# Altium schematic symbol library SamacSys.SchLib: 1281 symbols (part 11 of 13)
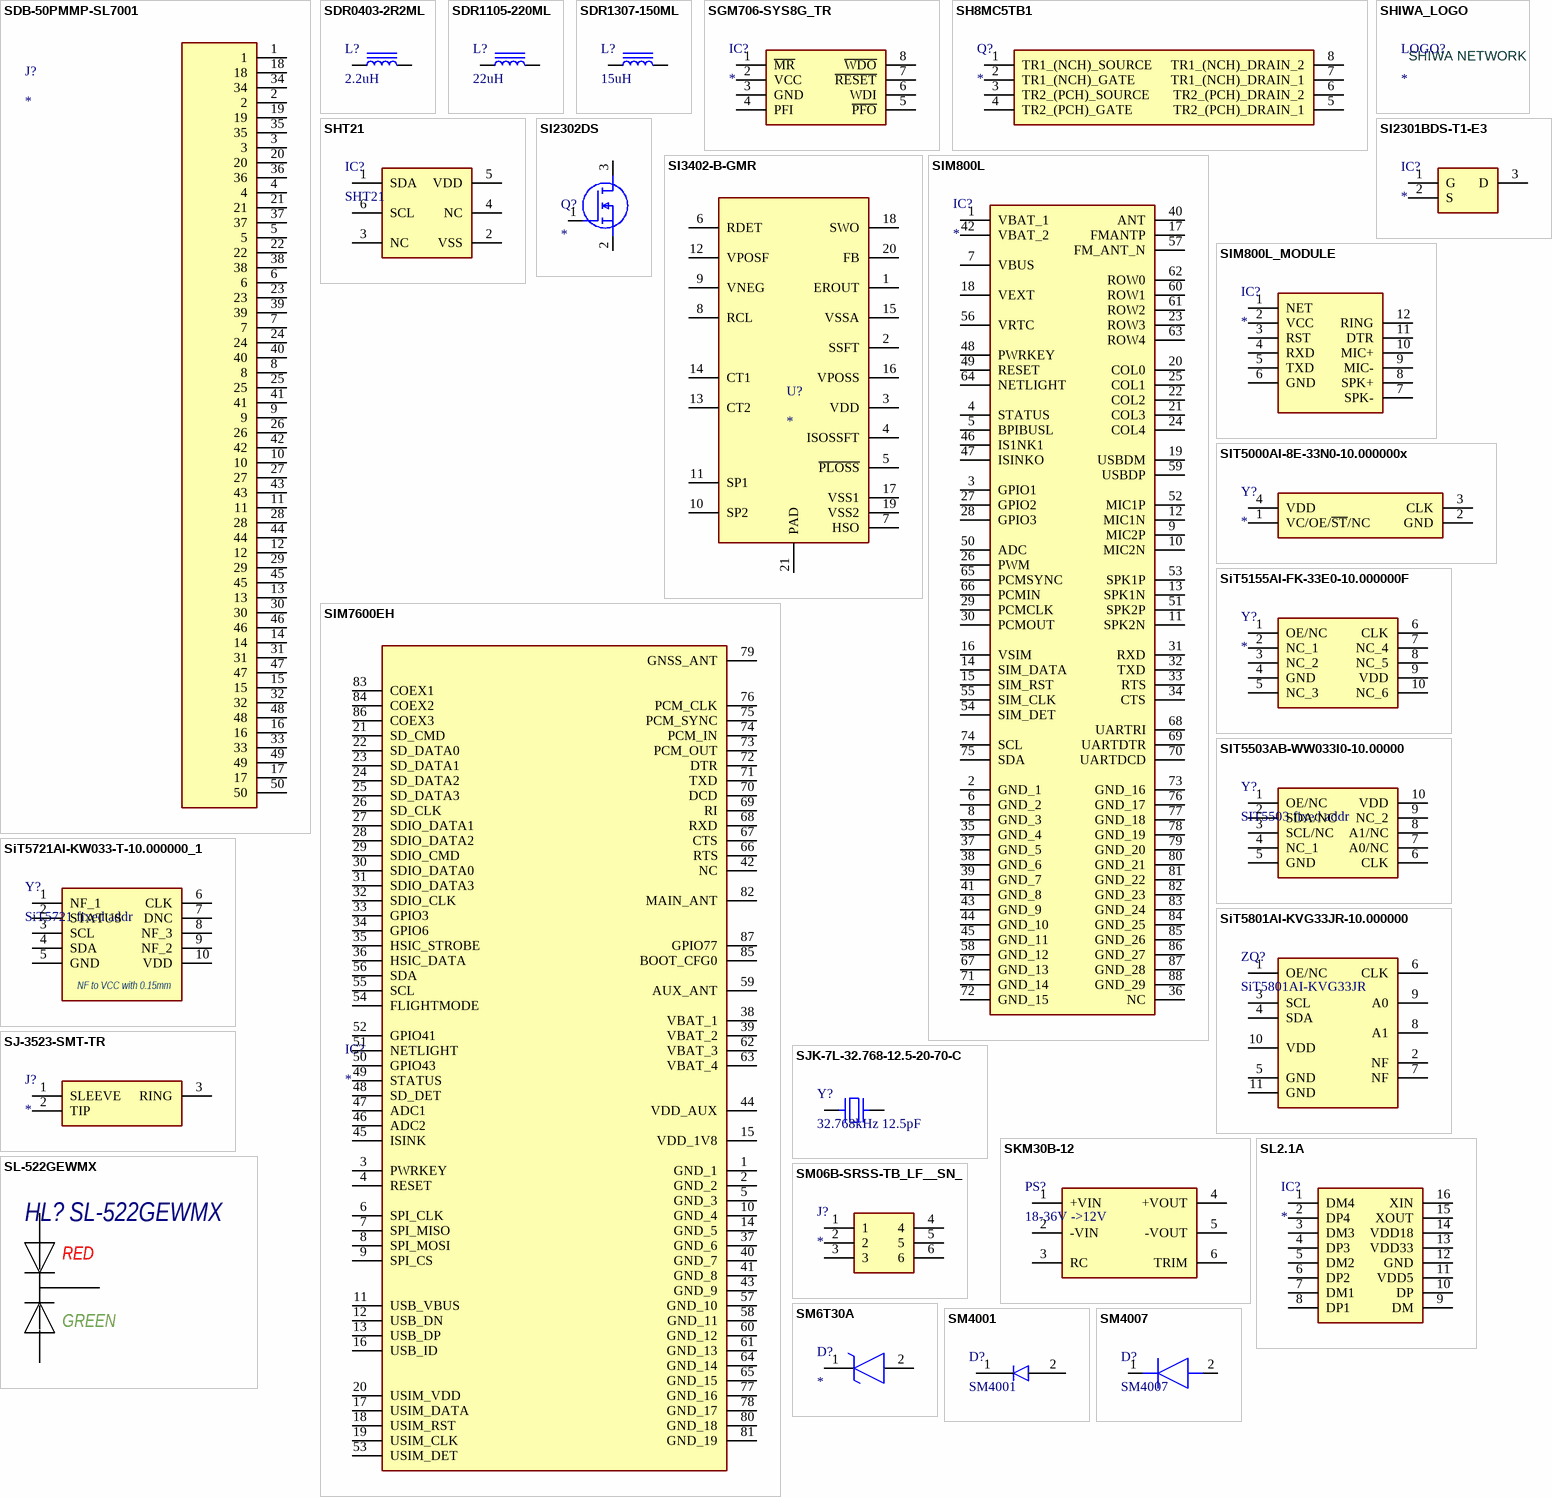
[diagram p57: symbols SDB-50PMMP-SL7001 to SM4007]

## SIM800L
designator IC?
Integrated Circuit; Manufacturer_Name: SIMCOM; Manufacturer_Part_Number: SIM800L; Datasheet Link: http://img.filipeflop.com/files/download/Datasheet_SIM800L.pdf; Height: 2.55mm
footprint SIM800L
pins: 1 VBAT_1, 2 GND_1, 3 GPIO1, 4 STATUS, 5 BPIBUSL, 6 GND_2, 7 VBUS, 8 GND_3, 9 MIC2P, 10 MIC2N, 11 SPK2N, 12 MIC1N, 13 SPK1N, 14 SIM_DATA, 15 SIM_RST, 16 VSIM, 17 FMANTP, 18 VEXT, 19 USBDM, 20 COL0, 21 COL3, 22 COL2, 23 ROW3, 24 COL4, 25 COL1, 26 PWM, 27 GPIO2, 28 GPIO3, 29 PCMCLK, 30 PCMOUT, 31 RXD, 32 TXD, 33 RTS, 34 CTS, 35 GND_4, 36 NC, 37 GND_5, 38 GND_6, 39 GND_7, 40 ANT, 41 GND_8, 42 VBAT_2, 43 GND_9, 44 GND_10, 45 GND_11, 46 IS1NK1, 47 ISINKO, 48 PWRKEY, 49 RESET, 50 ADC, 51 SPK2P, 52 MIC1P, 53 SPK1P, 54 SIM_DET, 55 SIM_CLK, 56 VRTC, 57 FM_ANT_N, 58 GND_12, 59 USBDP, 60 ROW1, 61 ROW2, 62 ROW0, 63 ROW4, 64 NETLIGHT, 65 PCMSYNC, 66 PCMIN, 67 GND_13, 68 UARTRI, 69 UARTDTR, 70 UARTDCD, 71 GND_14, 72 GND_15, 73 GND_16, 74 SCL, 75 SDA, 76 GND_17, 77 GND_18, 78 GND_19, 79 GND_20, 80 GND_21, 81 GND_22, 82 GND_23, 83 GND_24, 84 GND_25, 85 GND_26, 86 GND_27, 87 GND_28, 88 GND_29

## SIM800L_MODULE
designator IC?
GSM module; Manufacturer_Part_Number: SIM800L_MODULE
footprint SIM800L_MODULE
footprint SIM800L_MODULE-wo1pin
pins: 1 NET, 2 VCC, 3 RST, 4 RXD, 5 TXD, 6 GND, 7 SPK-, 8 SPK+, 9 MIC-, 10 MIC+, 11 DTR, 12 RING

## SIM7600EH
designator IC?
Integrated Circuit; Manufacturer_Name: SIMCOM; Manufacturer_Part_Number: SIM7600EH; Datasheet Link: https://www.waveshare.com/w/upload/f/fd/SIM7600_Series_Hardware_Design_V1.02.pdf; Height: 3.1mm
footprint SIM7600EH
pins: 1 GND_1, 2 GND_2, 3 PWRKEY, 4 RESET, 5 GND_3, 6 SPI_CLK, 7 SPI_MISO, 8 SPI_MOSI, 9 SPI_CS, 10 GND_4, 11 USB_VBUS, 12 USB_DN, 13 USB_DP, 14 GND_5, 15 VDD_1V8, 16 USB_ID, 17 USIM_DATA, 18 USIM_RST, 19 USIM_CLK, 20 USIM_VDD, 21 SD_CMD, 22 SD_DATA0, 23 SD_DATA1, 24 SD_DATA2, 25 SD_DATA3, 26 SD_CLK, 27 SDIO_DATA1, 28 SDIO_DATA2, 29 SDIO_CMD, 30 SDIO_DATA0, 31 SDIO_DATA3, 32 SDIO_CLK, 33 GPIO3, 34 GPIO6, 35 HSIC_STROBE, 36 HSIC_DATA, 37 GND_6, 38 VBAT_1, 39 VBAT_2, 40 GND_7, 41 GND_8, 42 NC, 43 GND_9, 44 VDD_AUX, 45 ISINK, 46 ADC2, 47 ADC1, 48 SD_DET, 49 STATUS, 50 GPIO43, 51 NETLIGHT, 52 GPIO41, 53 USIM_DET, 54 FLIGHTMODE, 55 SCL, 56 SDA, 57 GND_10, 58 GND_11, 59 AUX_ANT, 60 GND_12, 61 GND_13, 62 VBAT_3, 63 VBAT_4, 64 GND_14, 65 GND_15, 66 RTS, 67 CTS, 68 RXD, 69 RI, 70 DCD, 71 TXD, 72 DTR, 73 PCM_OUT, 74 PCM_IN, 75 PCM_SYNC, 76 PCM_CLK, 77 GND_16, 78 GND_17, 79 GNSS_ANT, 80 GND_18, 81 GND_19, 82 MAIN_ANT, 83 COEX1, 84 COEX2, 85 BOOT_CFG0, 86 COEX3, 87 GPIO77

## SIT5000AI-8E-33N0-10.000000x
designator Y?
Crystal or Oscillator; Manufacturer_Name: SiTime; Manufacturer_Part_Number: SIT5000AI-8E-33N0-10.000000x; Datasheet Link: https://www.sitime.com/datasheet/SiT5000; Height: 1mm; Mouser Part Number: 788-SIT5000AI8E3N10; Mouser Price/Stock: https://www.mouser.co.uk/ProductDetail/SiTime/SIT5000AI-8E-33N0-10000000x/?qs=GedFDFLaBXFLKNanSjMXgQ%3D%3D
footprint SIT5000AI8E33N010000000x
pins: 1 VC/OE/~{ST}/NC, 2 GND, 3 CLK, 4 VDD

## SiT5155AI-FK-33E0-10.000000F
designator Y?
Crystal or Oscillator; Manufacturer_Name: SiTime; Manufacturer_Part_Number: SiT5155AI-FK-33E0-10.000000F; Datasheet Link: https://www.mouser.cn/datasheet/2/371/SiT5155_datasheet-1371837.pdf; Height: 1.06mm; Mouser Part Number: 788-5155AIFK33E0100F; Mouser Price/Stock: https://www.mouser.co.uk/ProductDetail/SiTime/SiT5155AI-FK-33E0-10.000000F?qs=BJlw7L4Cy7%252B3BOCTl0ucGA%3D%3D
footprint SiT5155AIFK33E010000000F
pins: 1 OE/NC, 2 NC_1, 3 NC_2, 4 GND, 5 NC_3, 6 CLK, 7 NC_4, 8 NC_5, 9 VDD, 10 NC_6

## SIT5503AB-WW033I0-10.00000
designator Y?, comment SIT5503 fixed addr
Oscillator, WW*33 - any digit or letter (not "-"), 33J* - B, M, Q, R, T (50ppm and better); Manufacturer_Name: SiTime; Manufacturer_Part_Number: SIT5503AB-WW033I0-10.00000; Height: 2.2mm
footprint Ceramic_QFN_7050_10pins
pins: 1 OE/NC, 2 SDA/NC, 3 SCL/NC, 4 NC_1, 5 GND, 6 CLK, 7 A0/NC, 8 A1/NC, 9 NC_2, 10 VDD

## SiT5721AI-KW033-T-10.000000_1
designator Y?, comment SiT5721 fixed addr
Oscillator, KW*33 - any digit or letter (not "-"); Manufacturer_Name: SiTime; Manufacturer_Part_Number: SiT5721AI-KW033-T-10; Datasheet Link: https://www.sitime.com/support/resource-library/datasheets/sit5711-datasheet; Height: 6.19mm
footprint Emerald_9070_10pins_2022
pins: 1 NF_1, 2 STATUS, 3 SCL, 4 SDA, 5 GND, 6 CLK, 7 DNC, 8 NF_3, 9 NF_2, 10 VDD
text: NF to VCC with 0.15mm

## SiT5801AI-KVG33JR-10.000000
designator ZQ?, comment SiT5801AI-KVG33JR
OSC, 10 MHz, Industrial, STAB +-3ppb, CLAMP +-10ppm, I2C ADDR Mode, 3,3V; Manufacturer_Name: SiTime; Manufacturer_Part_Number: SiT5801AI-KVG33JR-10.000000; Datasheet Link: https://www.sitime.com/support/resource-library/datasheets/sit5711-datasheet; Height: 3.6mm
footprint SIT_9*7_11pins_wEP
pins: 1 OE/NC, 2 NF, 3 SCL, 4 SDA, 5 GND, 6 CLK, 7 NF, 8 A1, 9 A0, 10 VDD, 11 GND

## SJ-3523-SMT-TR
designator J?
Connector; Manufacturer_Name: CUI Inc.; Manufacturer_Part_Number: SJ-3523-SMT-TR; Datasheet Link: https://www.mouser.de/datasheet/2/670/sj_352x_smt-1779397.pdf; Height: 5.2mm; Mouser Part Number: 490-SJ-3523-SMT-TR; Mouser Price/Stock: https://www.mouser.co.uk/ProductDetail/CUI-Devices/SJ-3523-SMT-TR?qs=WyjlAZoYn51zOHzJ3r4ZRA%3D%3D; Arrow Part Number: SJ-3523-SMT-TR; Arrow Price/Stock: https://www.arrow.com/en/products/sj-3523-smt-tr/cui-devices?region=nac
footprint SJ3523SMTTR
pins: 1 SLEEVE, 2 TIP, 3 RING

## SJK-7L-32.768-12.5-20-70-C
designator Y?, comment 32.768kHz 12.5pF
Crystal or Oscillator; Manufacturer_Name: Epson Timing; Manufacturer_Part_Number: FC-135 32.7680KA-A3; Datasheet Link: https://support.epson.biz/td/api/doc_check.php?dl=brief_FC-135&lang=en; Height: 0.9mm; Mouser Part Number: 732-FC-13532.76KAA3; Mouser Price/Stock: https://www.mouser.co.uk/ProductDetail/Epson-Timing/FC-135-32.7680KA-A0?qs=tC2qD9afNgrMeRwy3OalUw%3D%3D; Arrow Part Number: FC-135 32.7680KA-A3; Arrow Price/Stock: https://www.arrow.com/en/products/fc-13532.7680ka-a0/epson-electronics-america?region=nac
footprint SJK-7L (Footprint not found)
pins: 1, 2

## SKM30B-12
designator PS?, comment 18-36V ->12V
DC/DC, 30Вт, Uвх: 18-36В, Uвых: 12ВDC, Iвых: 2,5А / A: 9 ~ 18VDC B: 18 ~ 36VDC C: 36 ~ 75VDC; Manufacturer_Name: Mean Well; Manufacturer_Part_Number: SKM30B-12; Datasheet Link: https://static.chipdip.ru/lib/784/DOC059784426.pdf; Height: 12; Mouser Part Number: 709-DPU01N-12; Mouser Price/Stock: https://www.mouser.co.uk/ProductDetail/MEAN-WELL/DPU01N-12?qs=5aG0NVq1C4yTyMl3DWRvqA%3D%3D; Arrow Part Number: DPU01N-12; Arrow Price/Stock: https://www.arrow.com/en/products/dpu01n-12/mean-well-enterprises
footprint SKM30 (DC/DC, 30W)
pins: 1 +VIN, 2 -VIN, 3 RC, 4 +VOUT, 5 -VOUT, 6 TRIM

## SL2.1A
designator IC?
Integrated Circuit; Manufacturer_Name: CoreChips ShenZhen CO.,Ltd; Manufacturer_Part_Number: SL2.1A; Datasheet Link: https://datasheet.lcsc.com/szlcsc/1811151645_CoreChips-SL2-1A_C192893.pdf; Height: 1.85mm
footprint SOIC127P604X185-16N
pins: 1 DM4, 2 DP4, 3 DM3, 4 DP3, 5 DM2, 6 DP2, 7 DM1, 8 DP1, 9 DM, 10 DP, 11 VDD5, 12 GND, 13 VDD33, 14 VDD18, 15 XOUT, 16 XIN

## SL-522GEWMX
designator HL?
LED BI-COLOR 5mm; Type: Индикатор единичный; Published: 03.12.2013; Publisher: Артем Голубев
footprint LED_DUAL_5mm (LED 5MM, BI-COLOR)
pins: 1 А_R "Анод", 2 К "Катод", 3 А_G "Анод"
1 alternate drawing of the same symbol
text: RED; GREEN

## SM06B-SRSS-TB_LF__SN_
designator J?
Connector; Manufacturer_Name: JST (JAPAN SOLDERLESS TERMINALS); Manufacturer_Part_Number: SM06B-SRSS-TB(LF)(SN); Datasheet Link: http://www.jst-mfg.com/product/pdf/eng/eSH.pdf; Arrow Part Number: SM06B-SRSS-TB(LF)(SN); Arrow Price/Stock: https://www.arrow.com/en/products/sm06b-srss-tb-lf-sn/jst-manufacturing?region=europe
footprint SM06B-SRSS-B
pins: 1, 2, 3, 4, 5, 6

## SM6T30A
designator D?
TVS Diode (Uni-directional); Manufacturer_Name: STMicroelectronics; Manufacturer_Part_Number: SM6T30A; Datasheet Link: https://www.st.com/resource/en/datasheet/sm6t100a.pdf; Height: 2.65mm; Mouser Part Number: 511-SM6T30A; Mouser Price/Stock: https://www.mouser.co.uk/ProductDetail/STMicroelectronics/SM6T30A?qs=Mu9A%252BxKg3hRUY0KZ5jUdPA%3D%3D; Arrow Part Number: SM6T30A; Arrow Price/Stock: https://www.arrow.com/en/products/sm6t30a/stmicroelectronics
footprint DIOM5436X265N
pins: 1 K, 2 A

## SM4001
designator D?
Diode; Manufacturer_Name: Diotec; Datasheet Link: https://static.chipdip.ru/lib/506/DOC008506449.pdf; Manufacturer_Part_Number: SM4001
footprint Melf/DO-213AB
pins: 1 K, 2 A

## SM4007
designator D?
Diode, 1000V, 1A, / Melf/DO-213AB; Manufacturer_Name: Rectron; Manufacturer_Part_Number: SM4007-W; Datasheet Link: https://componentsearchengine.com/Datasheets/1/SM4007-W.pdf; Mouser Part Number: 583-SM4007; Mouser Price/Stock: https://www.mouser.co.uk/ProductDetail/Rectron/SM4007-W?qs=Eu63EZxBwKLdRxdF7bUaug%3D%3D; Arrow Part Number: SM4007-W; Arrow Price/Stock: null?region=nac; Package: Melf/DO-213AB
footprint Melf/DO-213AB
pins: 1 K, 2 A

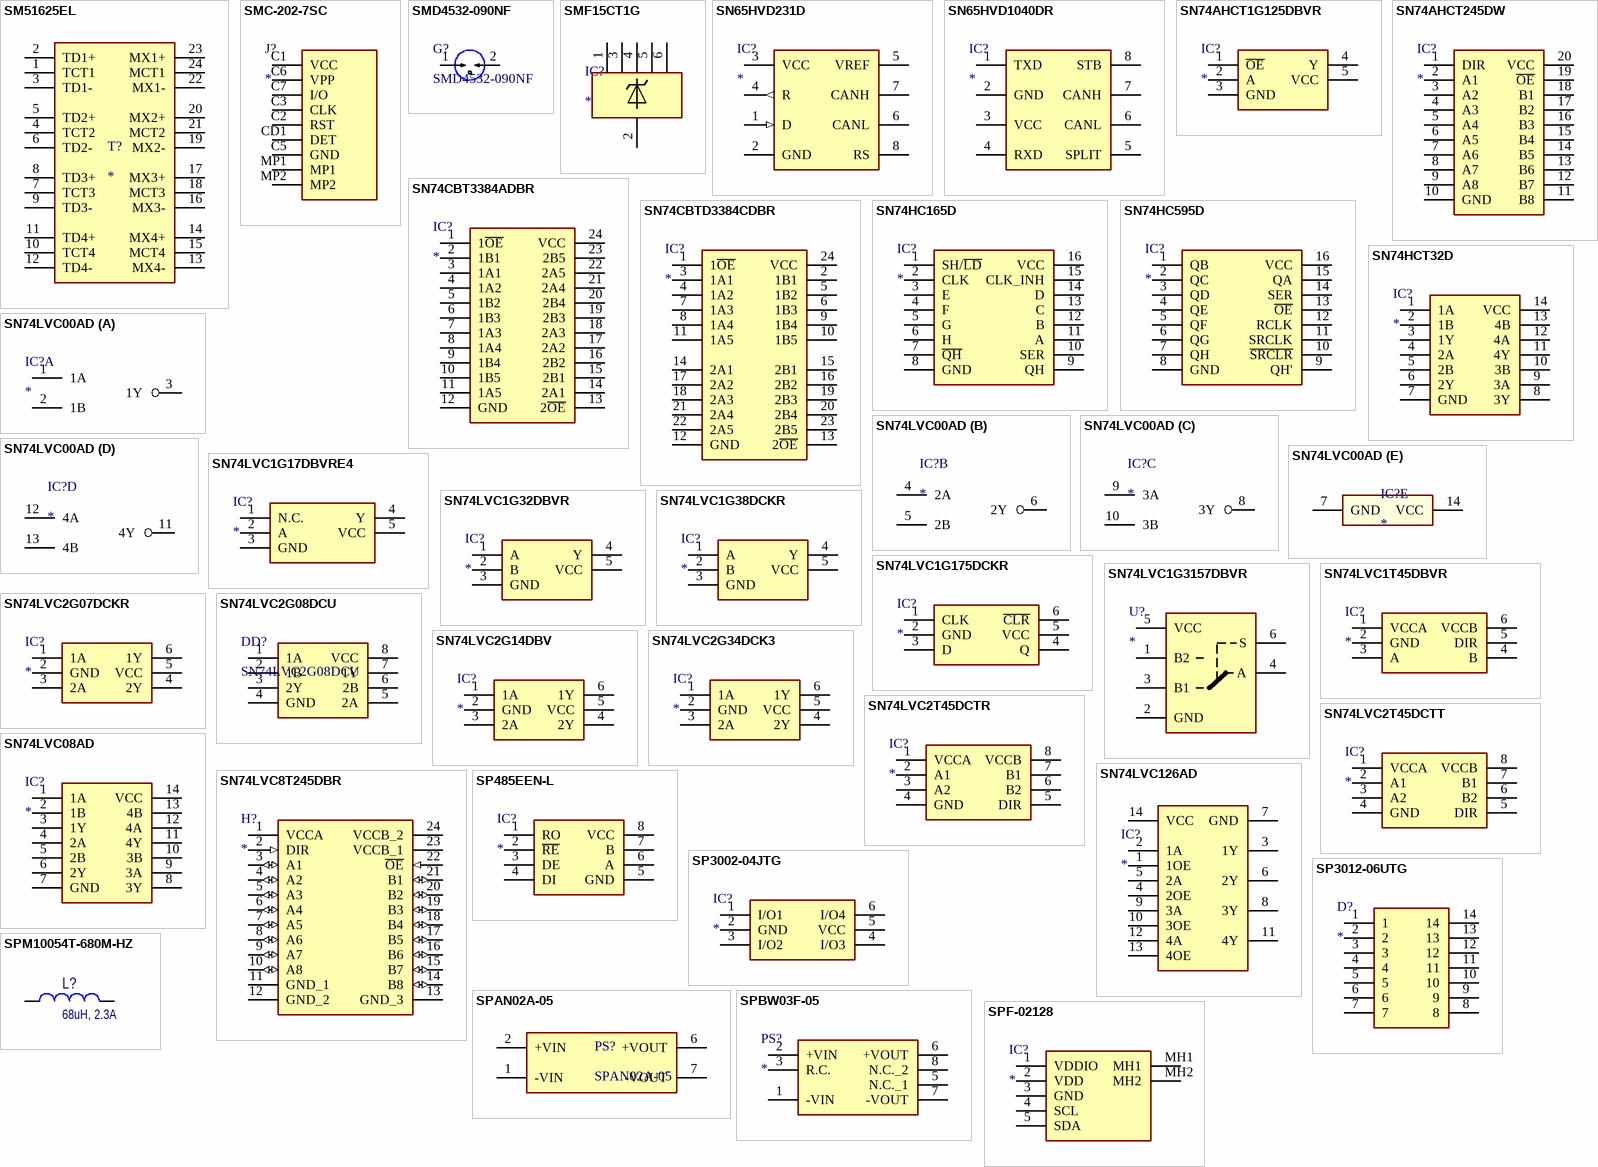
[diagram p37: symbols SM51625EL to SPM10054T-680M-HZ]

## SM51625EL
designator T?
10ÂµH LAN Pulse Transformer 1:1 Surface Mount; MF: Bourns; MP: SM51625EL; SnapEDA_Link: https://www.snapeda.com/parts/SM51625EL/Bourns/view-part/1237798/?ref=snap; Price: None; Check_prices: https://www.snapeda.com/parts/SM51625EL/Bourns/view-part/1237798/?ref=eda; Purchase-URL: https://pricing.snapeda.com/search/part/SM51625EL/?ref=eda; Value: *; Availability: Good; Package: None
footprint XFMR_SM51625EL
pins: 1 TCT1, 2 TD1+, 3 TD1-, 4 TCT2, 5 TD2+, 6 TD2-, 7 TCT3, 8 TD3+, 9 TD3-, 10 TCT4, 11 TD4+, 12 TD4-, 13 MX4-, 14 MX4+, 15 MCT4, 16 MX3-, 17 MX3+, 18 MCT3, 19 MX2-, 20 MX2+, 21 MCT2, 22 MX1-, 23 MX1+, 24 MCT1

## SMC-202-7SC
designator J?
Connector; Manufacturer_Name: XUNPU; Manufacturer_Part_Number: SMC-202-7SC; Datasheet Link: https://datasheet.lcsc.com/szlcsc/XUNPU-SMC-202-7SC_C266636.pdf; Height: 1.54mm
footprint SMC2027SC
pins: C1 VCC, C2 RST, C3 CLK, C5 GND, C6 VPP, C7 I/O, CD1 DET, MP1, MP2

## SMD4532-090NF
designator G?
GDT 90V 2KA 2 POLE SMD; Manufacturer_Name: RUILON; Datasheet Link: https://www.lcsc.com/datasheet/lcsc_datasheet_2403080959_RUILON-Shenzhen-Ruilongyuan-Elec-SMD4532-090NF_C9235.pdf; Height: 3mm; Manufacturer_Part_Number: SMD4532-090NF; LCSC: C9235
footprint GDT4532 (Footprint not found)
pins: 1, 2

## SMF15CT1G
designator IC?
Integrated Circuit; Manufacturer_Name: onsemi; Manufacturer_Part_Number: SMF15CT1G; Datasheet Link: http://www.onsemi.com/pub/Collateral/SMF05C-D.PDF; Height: 1.1mm; Mouser Part Number: 863-SMF15CT1G; Mouser Price/Stock: https://www.mouser.co.uk/ProductDetail/onsemi/SMF15CT1G?qs=xZq1yRCsb1fldVUsMHsAIA%3D%3D; Arrow Part Number: SMF15CT1G; Arrow Price/Stock: https://www.arrow.com/en/products/smf15ct1g/on-semiconductor?region=nac
footprint SOT65P210X110-6N
pins: 1 K_1, 2 A, 3 K_2, 4 K_3, 5 K_4, 6 K_5

## SN65HVD231D
designator IC?
Integrated Circuit, CAN Transceiver; Manufacturer_Name: Texas Instruments; Manufacturer_Part_Number: SN65HVD231D; Datasheet Link: http://www.ti.com/lit/ds/symlink/sn65hvd230.pdf; Height: 1.75mm; Mouser Part Number: 595-SN65HVD231D; Mouser Price/Stock: https://www.mouser.co.uk/ProductDetail/Texas-Instruments/SN65HVD231D?qs=QViXGNcIEAsYeC9x726Emw%3D%3D; Arrow Part Number: SN65HVD231D; Arrow Price/Stock: https://www.arrow.com/en/products/sn65hvd231d/texas-instruments?region=nac
footprint SOIC127P600X175-8N
pins: 1 D (in), 2 GND, 3 VCC, 4 R (out), 5 VREF, 6 CANL, 7 CANH, 8 RS

## SN65HVD1040DR
designator IC?
Integrated Circuit; Manufacturer_Name: Texas Instruments; Manufacturer_Part_Number: SN65HVD1040DR; Datasheet Link: http://www.ti.com/lit/gpn/sn65hvd1040; Height: 1.75mm; Mouser Part Number: 595-SN65HVD1040DR; Mouser Price/Stock: https://www.mouser.co.uk/ProductDetail/Texas-Instruments/SN65HVD1040DR/?qs=h%2FYsCRHtaqOO7rWtzP6eRQ%3D%3D; Arrow Part Number: SN65HVD1040DR; Arrow Price/Stock: https://www.arrow.com/en/products/sn65hvd1040dr/texas-instruments
footprint SOIC127P600X175-8N
pins: 1 TXD, 2 GND, 3 VCC, 4 RXD, 5 SPLIT, 6 CANL, 7 CANH, 8 STB

## SN74AHCT1G125DBVR
designator IC?
Integrated Circuit; Manufacturer_Name: Texas Instruments; Manufacturer_Part_Number: SN74AHCT1G125DBVR; Datasheet Link: http://www.ti.com/lit/ds/symlink/sn74ahct1g125.pdf; Height: 1.45mm; Mouser Part Number: 595-SNAHCT1G125DBVR; Mouser Price/Stock: https://www.mouser.co.uk/ProductDetail/Texas-Instruments/SN74AHCT1G125DBVR?qs=N6WZOzgtpqVaVW8Lh%252BgevA%3D%3D; Arrow Part Number: SN74AHCT1G125DBVR; Arrow Price/Stock: https://www.arrow.com/en/products/sn74ahct1g125dbvr/texas-instruments?region=nac
footprint SOT95P280X145-5N
pins: 1 ~{OE}, 2 A, 3 GND (power), 4 Y, 5 VCC (power)

## SN74AHCT245DW
designator IC?
Integrated Circuit; Manufacturer_Name: Texas Instruments; Manufacturer_Part_Number: SN74AHCT245DW; Datasheet Link: http://www.ti.com/lit/ds/symlink/sn74ahct245.pdf; Height: 2.65mm; Mouser Part Number: 595-SN74AHCT245DW; Mouser Price/Stock: https://www.mouser.co.uk/ProductDetail/Texas-Instruments/SN74AHCT245DW?qs=VolsR0DjNPoXRdqZBm8XLA%3D%3D; Arrow Part Number: SN74AHCT245DW; Arrow Price/Stock: https://www.arrow.com/en/products/sn74ahct245dw/texas-instruments
footprint SOIC127P1030X265-20N
pins: 1 DIR, 2 A1, 3 A2, 4 A3, 5 A4, 6 A5, 7 A6, 8 A7, 9 A8, 10 GND, 11 B8, 12 B7, 13 B6, 14 B5, 15 B4, 16 B3, 17 B2, 18 B1, 19 ~{OE}, 20 VCC

## SN74CBT3384ADBR
designator IC?
Integrated Circuit; Manufacturer_Name: Texas Instruments; Manufacturer_Part_Number: SN74CBT3384ADBR; Datasheet Link: http://www.ti.com/lit/gpn/sn74cbt3384a; Height: 2mm; Mouser Part Number: 595-SN74CBT3384ADBR; Mouser Price/Stock: https://www.mouser.co.uk/ProductDetail/Texas-Instruments/SN74CBT3384ADBR?qs=sbcp%2F4gpy08j9G1Ww3V2ww%3D%3D
footprint SOP65P780X200-24N
pins: 1 1~{OE}, 2 1B1, 3 1A1, 4 1A2, 5 1B2, 6 1B3, 7 1A3, 8 1A4, 9 1B4, 10 1B5, 11 1A5, 12 GND, 13 2~{OE}, 14 2A1, 15 2B1, 16 2B2, 17 2A2, 18 2A3, 19 2B3, 20 2B4, 21 2A4, 22 2A5, 23 2B5, 24 VCC

## SN74CBTD3384CDBR
designator IC?
Integrated Circuit; Manufacturer_Name: Texas Instruments; Manufacturer_Part_Number: SN74CBTD3384CDBR; Datasheet Link: http://www.ti.com/lit/gpn/sn74cbtd3384c; Height: 2mm; Mouser Part Number: 595-SN74CBTD3384CDBR; Mouser Price/Stock: https://www.mouser.co.uk/ProductDetail/Texas-Instruments/SN74CBTD3384CDBR?qs=mE33ZKBHyE5HkNXzDF2trA%3D%3D
footprint SOP65P780X200-24N
pins: 1 1~{OE}, 2 1B1, 3 1A1, 4 1A2, 5 1B2, 6 1B3, 7 1A3, 8 1A4, 9 1B4, 10 1B5, 11 1A5, 12 GND, 13 2~{OE}, 14 2A1, 15 2B1, 16 2B2, 17 2A2, 18 2A3, 19 2B3, 20 2B4, 21 2A4, 22 2A5, 23 2B5, 24 VCC

## SN74HC165D
designator IC?
Integrated Circuit; Manufacturer_Name: Texas Instruments; Manufacturer_Part_Number: SN74HC165D; Datasheet Link: http://www.ti.com/lit/ds/symlink/sn74hc165.pdf; Height: 1.75mm; Mouser Part Number: 595-SN74HC165D; Mouser Price/Stock: https://www.mouser.co.uk/ProductDetail/Texas-Instruments/SN74HC165D?qs=bvpNxolhIUOnjW0isDQmuw%3D%3D; Arrow Part Number: SN74HC165D; Arrow Price/Stock: https://www.arrow.com/en/products/sn74hc165d/texas-instruments?region=nac
footprint SOIC127P600X175-16N
pins: 1 SH/~{LD}, 2 CLK, 3 E, 4 F, 5 G, 6 H, 7 ~{QH}, 8 GND, 9 QH, 10 SER, 11 A, 12 B, 13 C, 14 D, 15 CLK_INH, 16 VCC

## SN74HC595D
designator IC?
Integrated Circuit; Manufacturer_Name: Texas Instruments; Manufacturer_Part_Number: SN74HC595D; Datasheet Link: http://www.ti.com/lit/gpn/sn74hc595; Height: 1.75mm; Mouser Part Number: 595-SN74HC595D; Mouser Price/Stock: https://www.mouser.co.uk/ProductDetail/Texas-Instruments/SN74HC595D?qs=IEl3ej0IqwDTFS4%2FHogVVQ%3D%3D; Arrow Part Number: SN74HC595D; Arrow Price/Stock: https://www.arrow.com/en/products/sn74hc595d/texas-instruments?region=nac
footprint SOIC127P600X175-16N
pins: 1 QB, 2 QC, 3 QD, 4 QE, 5 QF, 6 QG, 7 QH, 8 GND, 9 QH', 10 ~{SRCLR}, 11 SRCLK, 12 RCLK, 13 ~{OE}, 14 SER, 15 QA, 16 VCC

## SN74HCT32D
designator IC?
Integrated Circuit; Manufacturer_Name: Texas Instruments; Manufacturer_Part_Number: SN74HCT32D; Datasheet Link: http://www.ti.com/lit/gpn/sn74hct32; Height: 1.75mm; Mouser Part Number: 595-SN74HCT32D; Mouser Price/Stock: https://www.mouser.co.uk/ProductDetail/Texas-Instruments/SN74HCT32D?qs=YEaxc5757jOxUg7Aj9ESVA%3D%3D; Arrow Part Number: SN74HCT32D; Arrow Price/Stock: https://www.arrow.com/en/products/sn74hct32d/texas-instruments
footprint SOIC127P600X175-14N
pins: 1 1A, 2 1B, 3 1Y, 4 2A, 5 2B, 6 2Y, 7 GND, 8 3Y, 9 3A, 10 3B, 11 4Y, 12 4A, 13 4B, 14 VCC

## SN74LVC00AD
designator IC?
Integrated Circuit; Manufacturer_Name: Texas Instruments; Manufacturer_Part_Number: SN74LVC00AD; Datasheet Link: http://www.ti.com/lit/ds/symlink/sn74lvc00a.pdf; Height: 1.75mm; Mouser Part Number: 595-SN74LVC00AD; Mouser Price/Stock: https://www.mouser.co.uk/ProductDetail/Texas-Instruments/SN74LVC00AD?qs=sbcp%2F4gpy0%2FjGS8T41Dt%2Fg%3D%3D; Arrow Part Number: SN74LVC00AD; Arrow Price/Stock: https://www.arrow.com/en/products/sn74lvc00ad/texas-instruments?region=nac
footprint SOIC127P600X175-14N
part A pins: 1 1A, 2 1B, 3 1Y
part B pins: 4 2A, 5 2B, 6 2Y
part C pins: 8 3Y, 9 3A, 10 3B
part D pins: 11 4Y, 12 4A, 13 4B
part E pins: 7 GND, 14 VCC

## SN74LVC1G17DBVRE4
designator IC?
Integrated Circuit; Manufacturer_Name: Texas Instruments; Manufacturer_Part_Number: SN74LVC1G17DBVRE4; Datasheet Link: http://www.ti.com/general/docs/suppproductinfo.tsp?distId=10&gotoUrl=http%3A%2F%2Fwww.ti.com%2Flit%2Fgpn%2Fsn74lvc1g17; Height: 1.45mm; Mouser Part Number: 595-SN74LVC1G17DBVE4; Mouser Price/Stock: https://www.mouser.co.uk/ProductDetail/Texas-Instruments/SN74LVC1G17DBVRE4?qs=pajgIaoyDUhN0rE9ykef9A%3D%3D; Arrow Part Number: SN74LVC1G17DBVRE4; Arrow Price/Stock: https://www.arrow.com/en/products/sn74lvc1g17dbvre4/texas-instruments?region=nac
footprint SOT95P282X145-5N
pins: 1 N.C., 2 A, 3 GND, 4 Y, 5 VCC

## SN74LVC1G32DBVR
designator IC?
Integrated Circuit; Manufacturer_Name: Texas Instruments; Manufacturer_Part_Number: SN74LVC1G32DBVR; Datasheet Link: http://www.ti.com/lit/gpn/sn74lvc1g32; Height: 1.45mm; Mouser Part Number: 595-SN74LVC1G32DBVR; Mouser Price/Stock: https://www.mouser.co.uk/ProductDetail/Texas-Instruments/SN74LVC1G32DBVR?qs=3pnr37ZAbK%2F6ArGi%2FPb2Ng%3D%3D; Arrow Part Number: SN74LVC1G32DBVR; Arrow Price/Stock: https://www.arrow.com/en/products/sn74lvc1g32dbvr/texas-instruments?utm_currency=USD&region=nac
footprint SOT95P280X145-5N
pins: 1 A, 2 B, 3 GND, 4 Y, 5 VCC

## SN74LVC1G38DCKR
designator IC?
Integrated Circuit; Manufacturer_Name: Texas Instruments; Manufacturer_Part_Number: SN74LVC1G38DCKR; Datasheet Link: http://www.ti.com/lit/gpn/sn74lvc1g38; Height: 1.1mm; Mouser Part Number: 595-SN74LVC1G38DCKR; Mouser Price/Stock: https://www.mouser.co.uk/ProductDetail/Texas-Instruments/SN74LVC1G38DCKR?qs=nqigI8dpoHL3khvss%252BSFEA%3D%3D; Arrow Part Number: SN74LVC1G38DCKR; Arrow Price/Stock: https://www.arrow.com/en/products/sn74lvc1g38dckr/texas-instruments
footprint SOT65P210X110-5N
pins: 1 A, 2 B, 3 GND, 4 Y, 5 VCC

## SN74LVC1G175DCKR
designator IC?
Integrated Circuit; Manufacturer_Name: Texas Instruments; Manufacturer_Part_Number: SN74LVC1G175DCKR; Datasheet Link: http://www.ti.com/lit/gpn/sn74lvc1g175; Height: 1.1mm; Mouser Part Number: 595-SN74LVC1G175DCKR; Mouser Price/Stock: https://www.mouser.co.uk/ProductDetail/Texas-Instruments/SN74LVC1G175DCKR?qs=pajgIaoyDUjI2BH1x6CpqQ%3D%3D; Arrow Part Number: SN74LVC1G175DCKR; Arrow Price/Stock: https://www.arrow.com/en/products/sn74lvc1g175dckr/texas-instruments
footprint SOP65P210X110-6N
pins: 1 CLK, 2 GND, 3 D, 4 Q, 5 VCC, 6 ~{CLR}

## SN74LVC1G3157DBVR
designator U?
Integrated Circuit; Manufacturer_Name: Texas Instruments; Manufacturer_Part_Number: SN74LVC1G3157DBVR; Datasheet Link: http://componentsearchengine.com/Datasheets/1/SN74LVC1G3157DBVR.pdf; Height: 1.45mm; Mouser Part Number: 595-SN74LVC1G3157DBV; Mouser Price/Stock: https://www.mouser.co.uk/ProductDetail/Texas-Instruments/SN74LVC1G3157DBVR?qs=PVVDbbWpW3ID6l2sElWeMw%3D%3D; Arrow Part Number: SN74LVC1G3157DBVR; Arrow Price/Stock: https://www.arrow.com/en/products/sn74lvc1g3157dbvr/texas-instruments?region=nac
footprint SOT95P280X145-6N
pins: 1 B2, 2 GND, 3 B1, 4 A, 5 VCC, 6 S

## SN74LVC1T45DBVR
designator IC?
Integrated Circuit; Manufacturer_Name: Texas Instruments; Manufacturer_Part_Number: SN74LVC1T45DBVR; Datasheet Link: https://componentsearchengine.com/Datasheets/2/SN74LVC1T45DBVR.pdf; Height: 1.45mm; Mouser Part Number: 595-SN74LVC1T45DBVR; Mouser Price/Stock: https://www.mouser.co.uk/ProductDetail/Texas-Instruments/SN74LVC1T45DBVR?qs=pajgIaoyDUhg6sKXdsM%2Fvg%3D%3D; Arrow Part Number: SN74LVC1T45DBVR; Arrow Price/Stock: https://www.arrow.com/en/products/sn74lvc1t45dbvr/texas-instruments?region=nac
footprint SOT95P280X145-6N
pins: 1 VCCA, 2 GND, 3 A, 4 B, 5 DIR, 6 VCCB

## SN74LVC2G07DCKR
designator IC?
Integrated Circuit; Manufacturer_Name: Texas Instruments; Manufacturer_Part_Number: SN74LVC2G07DCKR; Datasheet Link: https://datasheet.lcsc.com/szlcsc/Texas-Instruments-TI-SN74LVC2G07DCKR_C7849.pdf; Height: 1.1mm; Mouser Part Number: 595-SN74LVC2G07DCKR; Mouser Price/Stock: https://www.mouser.co.uk/ProductDetail/Texas-Instruments/SN74LVC2G07DCKR?qs=EIjG%252BN7kn%252Bn6uhrXwDLE9Q%3D%3D; Arrow Part Number: SN74LVC2G07DCKR; Arrow Price/Stock: https://www.arrow.com/en/products/sn74lvc2g07dckr/texas-instruments
footprint SamacSys.PcbLib (Footprint not found)
pins: 1 1A, 2 GND, 3 2A, 4 2Y, 5 VCC, 6 1Y

## SN74LVC2G08DCU
designator DD?
IC DUAL 2-IN AND GATE; Manufacturer_Name: Texas Instruments; Datasheet Link: https://datasheet.datasheetarchive.com/originals/distributors/Datasheets-SFU2/DSASFU100028333.pdf; Height: 0.9mm; Manufacturer_Part_Number: SN74LVC2G08DCU
footprint SOP50P310X90-8N
pins: 1 1A, 2 1B, 3 2Y, 4 GND, 5 2A, 6 2B, 7 1Y, 8 VCC

## SN74LVC2G14DBV
designator IC?
Integrated Circuit; Manufacturer_Name: Texas Instruments; Manufacturer_Part_Number: SN74LVC2G14DBV; Datasheet Link: https://datasheet.datasheetarchive.com/originals/distributors/Datasheets-19/DSA-377546.pdf; Height: 1.45mm
footprint SOT95P280X145-6N
pins: 1 1A, 2 GND, 3 2A, 4 2Y, 5 VCC, 6 1Y

## SN74LVC2G34DCK3
designator IC?
Integrated Circuit; Manufacturer_Name: Texas Instruments; Manufacturer_Part_Number: SN74LVC2G34DCK3; Datasheet Link: http://www.ti.com/general/docs/suppproductinfo.tsp?distId=10&gotoUrl=http%3A%2F%2Fwww.ti.com%2Flit%2Fgpn%2Fsn74lvc2g34; Height: 1.1mm; Mouser Part Number: 595-SN74LVC2G34DCK3; Mouser Price/Stock: https://www.mouser.co.uk/ProductDetail/Texas-Instruments/SN74LVC2G34DCK3?qs=gHXEOK8GIg8bTQIZK93WuQ%3D%3D; Arrow Part Number: SN74LVC2G34DCK3; Arrow Price/Stock: https://www.arrow.com/en/products/sn74lvc2g34dck3/texas-instruments?region=nac
footprint SOT65P210X110-6N
pins: 1 1A, 2 GND, 3 2A, 4 2Y, 5 VCC, 6 1Y

## SN74LVC2T45DCTR
designator IC?
Integrated Circuit; Manufacturer_Name: Texas Instruments; Manufacturer_Part_Number: SN74LVC2T45DCTR; Datasheet Link: http://www.ti.com/lit/ds/symlink/sn74lvc2t45.pdf; Height: 1.3mm; Mouser Part Number: 595-SN74LVC2T45DCTR; Mouser Price/Stock: https://www.mouser.co.uk/ProductDetail/Texas-Instruments/SN74LVC2T45DCTR?qs=gb35HGp1gQKxa%252BqqJP05tg%3D%3D; Arrow Part Number: SN74LVC2T45DCTR; Arrow Price/Stock: https://www.arrow.com/en/products/sn74lvc2t45dctr/texas-instruments?region=nac
footprint SOP65P400X130-8N
pins: 1 VCCA, 2 A1, 3 A2, 4 GND, 5 DIR, 6 B2, 7 B1, 8 VCCB

## SN74LVC2T45DCTT
designator IC?
Integrated Circuit; Manufacturer_Name: Texas Instruments; Manufacturer_Part_Number: SN74LVC2T45DCTT; Datasheet Link: http://www.ti.com/lit/ds/symlink/sn74lvc2t45.pdf; Height: 1.3mm; Mouser Part Number: 595-SN74LVC2T45DCTT; Mouser Price/Stock: https://www.mouser.co.uk/ProductDetail/Texas-Instruments/SN74LVC2T45DCTT?qs=0smPjiIwnfJic%2Fy9YmAPjQ%3D%3D; Arrow Part Number: SN74LVC2T45DCTT; Arrow Price/Stock: https://www.arrow.com/en/products/sn74lvc2t45dctt/texas-instruments?region=nac
footprint SOP65P400X130-8N
pins: 1 VCCA, 2 A1, 3 A2, 4 GND, 5 DIR, 6 B2, 7 B1, 8 VCCB

## SN74LVC08AD
designator IC?
Integrated Circuit; Manufacturer_Name: Texas Instruments; Manufacturer_Part_Number: SN74LVC08AD; Datasheet Link: http://www.ti.com/lit/ds/symlink/sn74lvc08a.pdf; Height: 1.75mm; Mouser Part Number: 595-SN74LVC08AD; Mouser Price/Stock: https://www.mouser.co.uk/ProductDetail/Texas-Instruments/SN74LVC08AD?qs=sbcp%2F4gpy0%2FPSAqM7rghPA%3D%3D; Arrow Part Number: SN74LVC08AD; Arrow Price/Stock: https://www.arrow.com/en/products/sn74lvc08ad/texas-instruments.html?utm_currency=USD&region=nac
footprint SOIC127P600X175-14N
pins: 1 1A, 2 1B, 3 1Y, 4 2A, 5 2B, 6 2Y, 7 GND, 8 3Y, 9 3A, 10 3B, 11 4Y, 12 4A, 13 4B, 14 VCC

## SN74LVC8T245DBR
designator H?
Hardware; Manufacturer_Name: Texas Instruments; Manufacturer_Part_Number: SN74LVC8T245DBR; Datasheet Link: http://www.ti.com/lit/gpn/sn74lvc8t245; Height: 2mm; Mouser Part Number: 595-SN74LVC8T245DBR; Mouser Price/Stock: https://www.mouser.co.uk/ProductDetail/Texas-Instruments/SN74LVC8T245DBR?qs=dT9u2OTAaVVUSYF6iZ1h4A%3D%3D; Arrow Part Number: SN74LVC8T245DBR; Arrow Price/Stock: https://www.arrow.com/en/products/sn74lvc8t245dbr/texas-instruments?region=nac
footprint SOP65P780X200-24N
pins: 1 VCCA (power), 2 DIR (in), 3 A1 (io), 4 A2 (io), 5 A3 (io), 6 A4 (io), 7 A5 (io), 8 A6 (io), 9 A7 (io), 10 A8 (io), 11 GND_1 (power), 12 GND_2 (power), 13 GND_3 (power), 14 B8 (io), 15 B7 (io), 16 B6 (io), 17 B5 (io), 18 B4 (io), 19 B3 (io), 20 B2 (io), 21 B1 (io), 22 ~{OE} (in), 23 VCCB_1 (power), 24 VCCB_2 (power)

## SN74LVC126AD
designator IC?
Integrated Circuit; Manufacturer_Name: Texas Instruments; Manufacturer_Part_Number: SN74LVC126AD; Datasheet Link: http://www.ti.com/lit/gpn/SN74LVC126A; Height: 1.75mm; Mouser Part Number: 595-SN74LVC126AD; Mouser Price/Stock: https://www.mouser.co.uk/ProductDetail/Texas-Instruments/SN74LVC126AD?qs=6gY4t2uohMzacn0fnU%252BOeg%3D%3D; Arrow Part Number: SN74LVC126AD; Arrow Price/Stock: https://www.arrow.com/en/products/sn74lvc126ad/texas-instruments?region=nac
footprint SOIC127P600X175-14N
pins: 1 1OE, 2 1A, 3 1Y, 4 2OE, 5 2A, 6 2Y, 7 GND, 8 3Y, 9 3A, 10 3OE, 11 4Y, 12 4A, 13 4OE, 14 VCC

## SP485EEN-L
designator IC?
Integrated Circuit; Manufacturer_Name: MaxLinear; Manufacturer_Part_Number: SP485EEN-L; Datasheet Link: https://componentsearchengine.com/Datasheets/1/SP485EEN-L.pdf; Height: 1.75mm; Mouser Part Number: 701-SP485EEN-L; Mouser Price/Stock: https://www.mouser.co.uk/ProductDetail/MaxLinear/SP485EEN-L?qs=H%252BP%2FcHWii3eBjfJCCluoeQ%3D%3D; Arrow Part Number: SP485EEN-L; Arrow Price/Stock: https://www.arrow.com/en/products/sp485een-l/maxlinear-inc?utm_currency=USD&region=nac
footprint SOIC127P600X175-8N
pins: 1 RO, 2 ~{RE}, 3 DE, 4 DI, 5 GND, 6 A, 7 B, 8 VCC

## SP3002-04JTG
designator IC?
Integrated Circuit; Manufacturer_Name: LITTELFUSE; Manufacturer_Part_Number: SP3002-04JTG; Datasheet Link: https://m.littelfuse.com/~/media/electronics/datasheets/tvs_diode_arrays/littelfuse_tvs_diode_array_sp3002_datasheet.pdf.pdf; Height: 1.1mm; Mouser Part Number: 576-SP3002-04JTG; Mouser Price/Stock: https://www.mouser.co.uk/ProductDetail/Littelfuse/SP3002-04JTG?qs=Xb8IjHhkxj40Q3K%2Fx81Vbw%3D%3D; Arrow Part Number: SP3002-04JTG; Arrow Price/Stock: https://www.arrow.com/en/products/sp3002-04jtg/littelfuse?region=nac
footprint SOT65P220X110-6N
pins: 1 I/O1, 2 GND, 3 I/O2, 4 I/O3, 5 VCC, 6 I/O4

## SP3012-06UTG
designator D?
Diode; Manufacturer_Name: LITTELFUSE; Manufacturer_Part_Number: SP3012-06UTG; Datasheet Link: http://www.mouser.com/datasheet/2/240/Littelfuse_TVS_Diode_Array_SP3012_Datasheet.pdf-268239.pdf; Height: 0.55mm; Mouser Part Number: 576-SP3012-06UTG; Mouser Price/Stock: https://www.mouser.co.uk/ProductDetail/Littelfuse/SP3012-06UTG?qs=Ym0rwzMtR1UCUnrA6KszoQ%3D%3D; Arrow Part Number: SP3012-06UTG; Arrow Price/Stock: https://www.arrow.com/en/products/sp3012-06utg/littelfuse
footprint SP301206UTG (Footprint not found)
pins: 1, 2, 3, 4, 5, 6, 7, 8, 9, 10, 11, 12, 13, 14

## SPAN02A-05
designator PS?
Power Supply, DC/DC, 2W isolated, 9-18В -> 5В, 0.4А; Manufacturer: Mornsun; Part Number: B2405S-2WR3; Help URL: https://static.chipdip.ru/lib/800/DOC059800393.pdf; Price Qty: 10; Price: 1.09
footprint SPAN02A
pins: 1 -VIN, 2 +VIN, 6 +VOUT, 7 -VOUT

## SPBW03F-05
designator PS?
Power Supply; Manufacturer_Name: Mean Well; Manufacturer_Part_Number: SPBW03F-05; Datasheet Link: https://datasheet.datasheetarchive.com/originals/distributors/DKDS-2/37033.pdf; Height: 11.6mm; Mouser Part Number: 709-SPBW03F-05; Mouser Price/Stock: https://www.mouser.co.uk/ProductDetail/MEAN-WELL/SPBW03F-05?qs=5aG0NVq1C4ygTXk%2FgwDM0Q%3D%3D; Arrow Part Number: SPBW03F-05; Arrow Price/Stock: null?region=nac
footprint SPBW06F05
pins: 1 -VIN, 2 +VIN, 3 R.C., 5 N.C._1, 6 +VOUT, 7 -VOUT, 8 N.C._2

## SPF-02128
designator IC?
Integrated Circuit; Manufacturer_Name: SparkFun; Manufacturer_Part_Number: SPF-02128; Datasheet Link: https://www.sparkfun.com/products/retired/11824; Height: 5mm
footprint SPF02128
pins: 1 VDDIO, 2 VDD, 3 GND, 4 SCL, 5 SDA, MH1, MH2

## SPM10054T-680M-HZ
designator L?, comment 68uH, 2.3A
Inductor; Manufacturer: TDK; Manufacturer Part Number: SPM10054T-680M
footprint SPM10054T680MHZR
pins: 1, 2

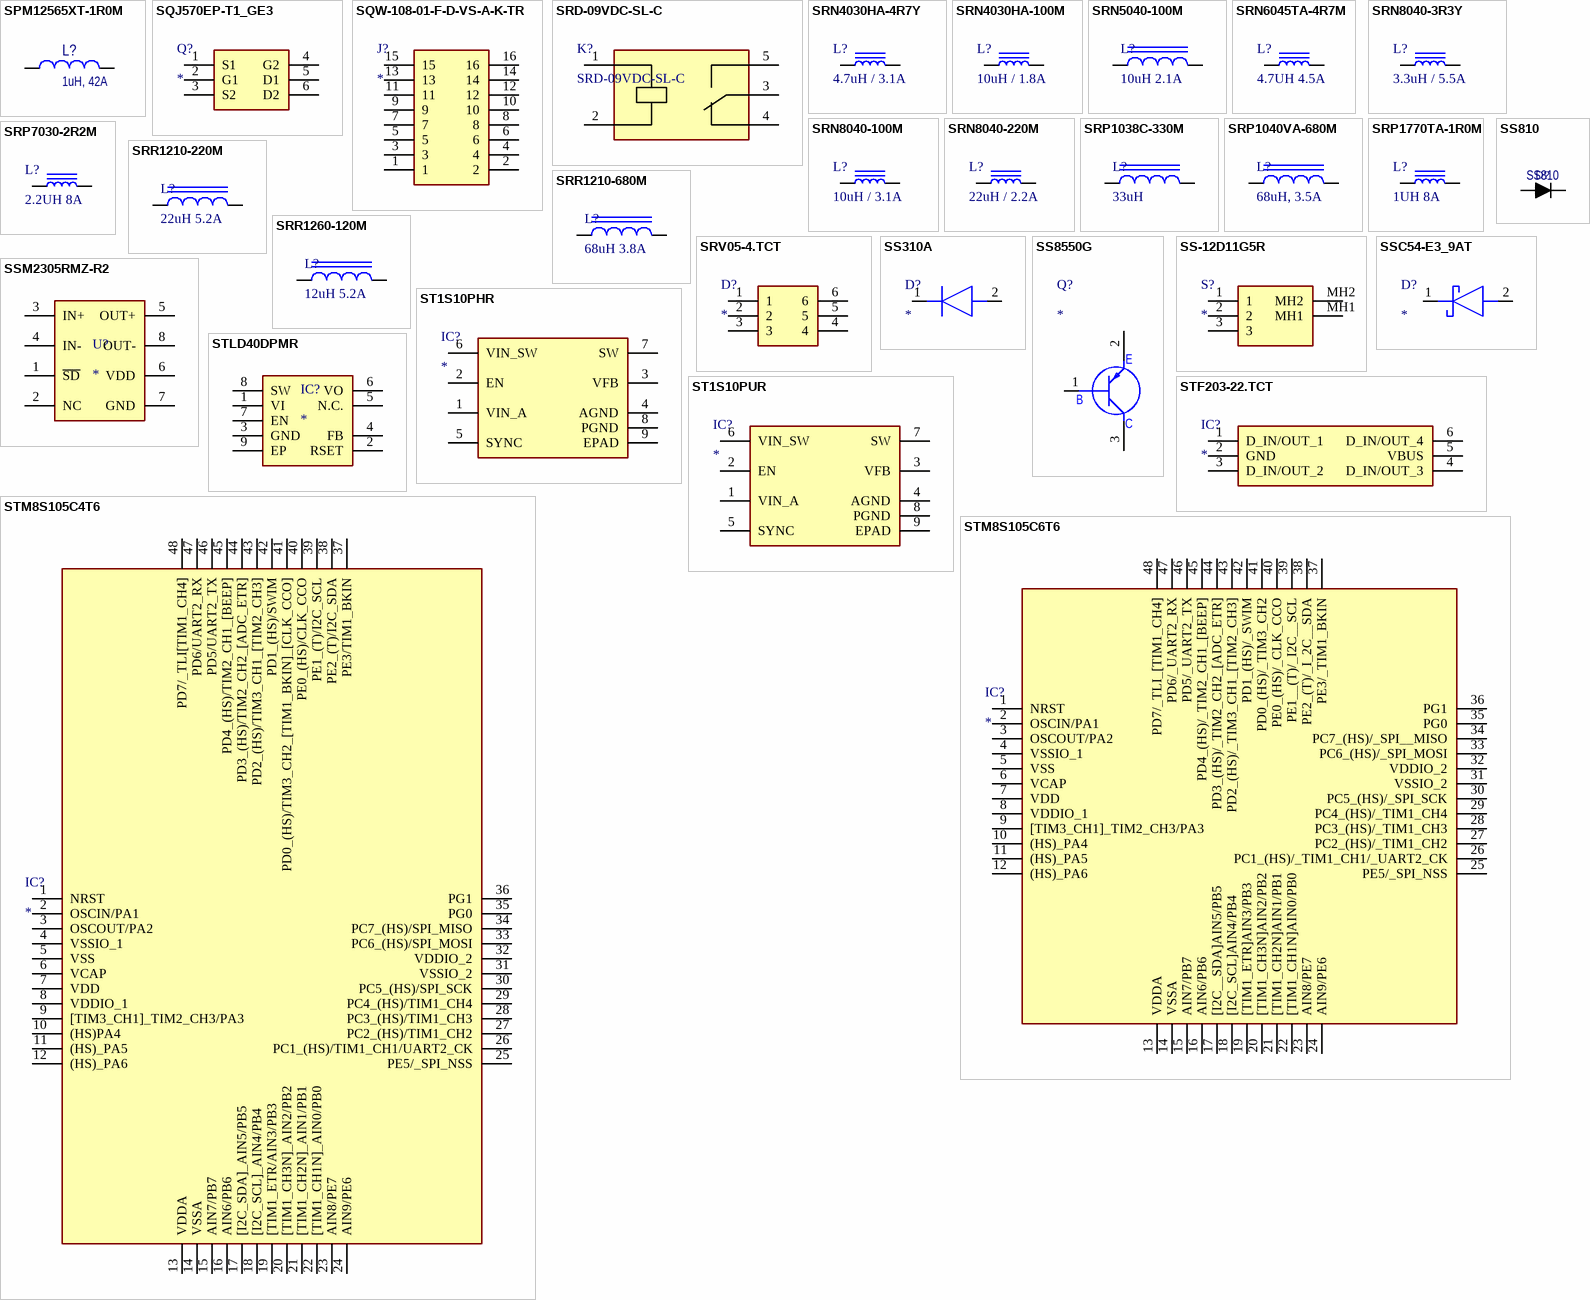
[diagram p38: symbols SPM12565XT-1R0M to STM8S105C6T6]

## SPM12565XT-1R0M
designator L?, comment 1uH, 42A
22A 1uH ±20% 42A SMD,13x12.6mm Power Inductors ROHS; Manufacturer: TDK; Manufacturer Part Number: SPM12565XT-1R0M; Value: 1uH, 22-42A
footprint SPM12565XT
pins: 1, 2

## SQJ570EP-T1_GE3
designator Q?
MOSFET (N-Channel); Manufacturer_Name: Vishay; Manufacturer_Part_Number: SQJ570EP-T1_GE3; Datasheet Link: https://www.vishay.com/docs/76453/sqj570ep.pdf; Mouser Part Number: 78-SQJ570EP-T1_GE3; Mouser Price/Stock: https://www.mouser.co.uk/ProductDetail/Vishay-Siliconix/SQJ570EP-T1_GE3?qs=EBLjwc9jJJsudI%2FJopg3%252BA%3D%3D; Arrow Part Number: SQJ570EP-T1_GE3; Arrow Price/Stock: https://www.arrow.com/en/products/sqj570ep-t1-ge3/vishay?region=nac
footprint SQJ968EPT1GE3
pins: 1 S1, 2 G1, 3 S2, 4 G2, 5 D1, 6 D2

## SQW-108-01-F-D-VS-A-K-TR
designator J?
Connector; Manufacturer_Name: SAMTEC; Manufacturer_Part_Number: SQW-108-01-F-D-VS-A-K-TR; Datasheet Link: http://suddendocs.samtec.com/prints/sqw-1xx-01-xxx-d-vs-xx-xxx-mkt.pdf; Height: 7.75mm; Mouser Part Number: 200-SQW10801FDVSAKTR; Mouser Price/Stock: https://www.mouser.co.uk/ProductDetail/Samtec/SQW-108-01-F-D-VS-A-K-TR?qs=%252BZP6%2F%252BtExtA8vC6mMtyOCQ%3D%3D; Arrow Part Number: SQW-108-01-F-D-VS-A-K-TR; Arrow Price/Stock: https://www.arrow.com/en/products/sqw-108-01-f-d-vs-a-k-tr/samtec?region=nac
footprint SQW-108-01-XX-D-VS-A-K-TR
pins: 1, 2, 3, 4, 5, 6, 7, 8, 9, 10, 11, 12, 13, 14, 15, 16

## SRD-09VDC-SL-C
designator K?
Relay, 9V Coil, Form C; Manufacturer_Name: Ningbo; Datasheet Link: https://www.lcsc.com/product-detail/Power-Relays_Ningbo-Songle-Relay-SRD-09VDC-SL-C_C41595.html; Height: 15.9mm; Manufacturer_Part_Number: SRD-09VDC-SL-C
footprint HF3FD012ZTF257
pins: 1 COIL_1, 2 NC, 3 NO, 4 COIL_2, 5 COM

## SRN4030HA-4R7Y
designator L?, comment 4.7uH / 3.1A
SMT Inductor; Value: 4.7uH / 3.1A
footprint SRN4030HA
pins: 1, 2

## SRN4030HA-100M
designator L?, comment 10uH / 1.8A
SMT Inductor; Value: 10uH / 1.8A
footprint SRN4030HA
pins: 1, 2

## SRN5040-100M
designator L?, comment 10uH 2.1A
SMT Inductor 10uH 2.1A; Rated Current: 3.5A; Value: 10uH 2.1A
footprint SRN5040 (Footprint not found)
pins: 1, 2

## SRN6045TA-4R7M
designator L?, comment 4.7UH 4.5A
FIXED IND 4.7UH 4.5A 26 MOHM SMD; Value: 4.7UH 4.5A
footprint SRN6045
pins: 1, 2

## SRN8040-3R3Y
designator L?, comment 3.3uH / 5.5A
SMT Inductor, 3.3uH / 5.5A; Value: 3.3uH / 5.5A
footprint SRN8040
pins: 1, 2

## SRN8040-100M
designator L?, comment 10uH / 3.1A
SMT Inductor, 10uH / 3.1A; Value: 10uH / 3.1A
footprint SRN8040
pins: 1, 2

## SRN8040-220M
designator L?, comment 22uH / 2.2A
SMT Inductor, 22uH / 2.2A; Value: 22uH / 2.2A
footprint SRN8040
pins: 1, 2

## SRP1038C-330M
designator L?, comment 33uH
SMT Inductor, 33uH, 4A; Value: 33uH
footprint INDPM110100X420N
pins: 1, 2

## SRP1040VA-680M
designator L?, comment 68uH, 3.5A
SMT Inductor; Value: 68uH, 3.5A; Rated Current: 3.5A
footprint SRP1040VA-680M
pins: 1, 2

## SRP1770TA-1R0M
designator L?, comment 1UH 8A
FIXED IND 1UH 52A 0.016OHM SMD; Value: 1uH / 52A
footprint INDPM176169X700N
pins: 1, 2

## SRP7030-2R2M
designator L?, comment 2.2UH 8A
FIXED IND 2.2UH 8A 0.02OHM SMD; Value: 3.3uH / 5.5A
footprint INDPM7870X320N
pins: 1, 2

## SRR1210-220M
designator L?, comment 22uH 5.2A
SMT Inductor, 22uH 5.2A; Rated Current: 3.8A; Value: 22uH 5.2A
footprint SRR1210
pins: 1, 2

## SRR1210-680M
designator L?, comment 68uH 3.8A
SMT Inductor; Value: 68uH 3.8A; Rated Current: 3.8A
footprint SRR1210
pins: 1, 2

## SRR1260-120M
designator L?, comment 12uH 5.2A
SMT Inductor; Rated Current: 3.5A; Value: 12uH 5.2A
footprint SRR1260120M
pins: 1, 2

## SRV05-4.TCT
designator D?
TVS Diode (Uni-directional); Manufacturer_Name: SEMTECH; Manufacturer_Part_Number: SRV05-4.TCT; Datasheet Link: https://datasheet.datasheetarchive.com/originals/distributors/Datasheets-DGA26/1842016.pdf; Height: 1.45mm; Mouser Part Number: 947-SRV05-4.TCT; Mouser Price/Stock: https://www.mouser.co.uk/ProductDetail/Semtech/SRV05-4.TCT?qs=rBWM4%252BvDhIe0tfPjqKjR5Q%3D%3D; Arrow Part Number: SRV05-4.TCT; Arrow Price/Stock: https://www.arrow.com/en/products/srv05-4.tct/semtech?region=nac
footprint SOT95P280X145-6N
pins: 1, 2, 3, 4, 5, 6

## SS310A
designator D?
Diode; Manufacturer_Name: HY Electronic; Manufacturer_Part_Number: SS310A; Datasheet Link: https://4donline.ihs.com/images/VipMasterIC/IC/FECL/FECL-S-A0009071764/FECL-S-A0009071764-1.pdf?hkey=EF798316E3902B6ED9A73243A3159BB0; Height: 2.62mm
footprint DIOM5026X262N
pins: 1 K, 2 A

## SS810
designator D?, comment value SS810  (hidden comment: SK810)
DIODE SCHOTTKY 100V 8A DO214AB
footprint DO214AB
pins: 1 K, 2 A

## SS8550G
designator Q?
Transistor; Manufacturer_Name: Galaxy; Manufacturer_Part_Number: SS8550G; Height: 1.1mm
footprint SOT95P240X110-3N
pins: 1 B, 2 EMITTER, 3 COLLECTOR
text: E; C

## SS-12D11G5R
designator S?
Switch; Manufacturer_Name: XKB Connectivity; Manufacturer_Part_Number: SS-12D11G5R; Datasheet Link: http://www.helloxkb.com/public/images/pdf/SS-12D11XXX.pdf; Height: 6.9mm
footprint SS12D11G5R
pins: 1, 2, 3, MH1, MH2

## SSC54-E3_9AT
designator D?
Schottky Diode; Manufacturer_Name: Vishay; Manufacturer_Part_Number: SSC54-E3/9AT; Datasheet Link: https://www.vishay.com/docs/88885/ssc53l.pdf; Height: 2.62mm; Mouser Part Number: 625-SSC54-E3/9AT; Mouser Price/Stock: https://www.mouser.co.uk/ProductDetail/Vishay-General-Semiconductor/SSC54-E3-9AT?qs=x2jpVgRnAtO3JJETlWjmEQ%3D%3D; Arrow Part Number: SSC54-E3/9AT; Arrow Price/Stock: https://www.arrow.com/en/products/ssc54-e39at/vishay
footprint DIOM7959X262N
pins: 1 K, 2 A

## SSM2305RMZ-R2
designator U?
Integrated Circuit; Manufacturer_Name: Analog Devices; Manufacturer_Part_Number: SSM2305RMZ-R2; Datasheet Link: http://docs-emea.rs-online.com/webdocs/0de2/0900766b80de257f.pdf; Height: 1.1mm; Mouser Part Number: 584-SSM2305RMZ-R2; Mouser Price/Stock: https://www.mouser.com/Search/Refine.aspx?Keyword=584-SSM2305RMZ-R2; Arrow Part Number: SSM2305RMZ-R2; Arrow Price/Stock: https://www.arrow.com/en/products/ssm2305rmz-r2/analog-devices
footprint SOP65P490X110-8N
pins: 1 ~{SD}, 2 NC, 3 IN+, 4 IN-, 5 OUT+, 6 VDD, 7 GND, 8 OUT-

## ST1S10PHR
designator IC?
Integrated Circuit; Manufacturer_Name: STMicroelectronics; Manufacturer_Part_Number: ST1S10PHR; Datasheet Link: https://www.st.com/resource/en/datasheet/cd00169322.pdf; Height: 1.7mm; Mouser Part Number: 511-ST1S10PHR; Mouser Price/Stock: https://www.mouser.co.uk/ProductDetail/STMicroelectronics/ST1S10PHR?qs=qolwYojYp3QSBN7PdO5xhg%3D%3D; Arrow Part Number: ST1S10PHR; Arrow Price/Stock: https://www.arrow.com/en/products/st1s10phr/stmicroelectronics?region=nac
footprint ST1S10PHR
pins: 1 VIN_A, 2 EN, 3 VFB, 4 AGND, 5 SYNC, 6 VIN_SW, 7 SW, 8 PGND, 9 EPAD

## ST1S10PUR
designator IC?
Integrated Circuit; Manufacturer_Name: STMicroelectronics; Manufacturer_Part_Number: ST1S10PUR; Datasheet Link: http://www.st.com/web/en/resource/technical/document/datasheet/CD00169322.pdf; Height: 1mm; Mouser Part Number: 511-ST1S10PUR; Mouser Price/Stock: https://www.mouser.co.uk/ProductDetail/STMicroelectronics/ST1S10PUR?qs=z4PnFkYVEVm5N8HB9vh9zg%3D%3D; Arrow Part Number: ST1S10PUR; Arrow Price/Stock: https://www.arrow.com/en/products/st1s10pur/stmicroelectronics?region=nac
footprint SON80P400X400X100-9N-D
pins: 1 VIN_A, 2 EN, 3 VFB, 4 AGND, 5 SYNC, 6 VIN_SW, 7 SW, 8 PGND, 9 EPAD

## STF203-22.TCT
designator IC?
Integrated Circuit; Manufacturer_Name: SEMTECH; Manufacturer_Part_Number: STF203-22.TCT; Datasheet Link: https://componentsearchengine.com/Datasheets/2/STF203-22.TCT.pdf; Height: 1.1mm; Mouser Part Number: 947-STF203-22.TCT; Mouser Price/Stock: https://www.mouser.co.uk/ProductDetail/Semtech/STF203-22.TCT?qs=rBWM4%252BvDhIeTztOOK5QEzg%3D%3D; Arrow Part Number: STF203-22.TCT; Arrow Price/Stock: https://www.arrow.com/en/products/stf203-22.tct/semtech?region=nac
footprint SOT65P210X110-6N
pins: 1 D_IN/OUT_1, 2 GND, 3 D_IN/OUT_2, 4 D_IN/OUT_3, 5 VBUS, 6 D_IN/OUT_4

## STLD40DPMR
designator IC?
Integrated Circuit; Manufacturer_Name: STMicroelectronics; Manufacturer_Part_Number: STLD40DPMR; Datasheet Link: https://www.st.com/resource/en/datasheet/stld40d.pdf; Height: 1mm; Mouser Part Number: 511-STLD40DPMR; Mouser Price/Stock: https://www.mouser.com/Search/Refine.aspx?Keyword=511-STLD40DPMR
footprint SON65P300X300X100-9N-D
pins: 1 VI, 2 RSET, 3 GND, 4 FB, 5 N.C., 6 VO, 7 EN, 8 SW, 9 EP

## STM8S105C4T6
designator IC?
Integrated Circuit; Manufacturer_Name: STMicroelectronics; Manufacturer_Part_Number: STM8S105C4T6; Datasheet Link: http://www.st.com/st-web-ui/static/active/en/resource/technical/document/datasheet/CD00200092.pdf; Height: 1.6mm; Mouser Part Number: 511-STM8S105C4T6; Mouser Price/Stock: https://www.mouser.co.uk/ProductDetail/STMicroelectronics/STM8S105C4T6?qs=YSp3DhtTcU2ynIfTxGtKOA%3D%3D; Arrow Part Number: STM8S105C4T6; Arrow Price/Stock: https://www.arrow.com/en/products/stm8s105c4t6/stmicroelectronics
footprint QFP50P900X900X160-48N
pins: 1 NRST, 2 OSCIN/PA1, 3 OSCOUT/PA2, 4 VSSIO_1, 5 VSS, 6 VCAP, 7 VDD, 8 VDDIO_1, 9 [TIM3_CH1]_TIM2_CH3/PA3, 10 (HS)PA4, 11 (HS)_PA5, 12 (HS)_PA6, 13 VDDA, 14 VSSA, 15 AIN7/PB7, 16 AIN6/PB6, 17 [I2C_SDA]_AIN5/PB5, 18 [I2C_SCL]_AIN4/PB4, 19 [TIM1_ETR/AIN3/PB3, 20 [TIM1_CH3N]_AIN2/PB2, 21 [TIM1_CH2N]_AIN1/PB1, 22 [TIM1_CH1N]_AIN0/PB0, 23 AIN8/PE7, 24 AIN9/PE6, 25 PE5/_SPI_NSS, 26 PC1_(HS)/TIM1_CH1/UART2_CK, 27 PC2_(HS)/TIM1_CH2, 28 PC3_(HS)/TIM1_CH3, 29 PC4_(HS)/TIM1_CH4, 30 PC5_(HS)/SPI_SCK, 31 VSSIO_2, 32 VDDIO_2, 33 PC6_(HS)/SPI_MOSI, 34 PC7_(HS)/SPI_MISO, 35 PG0, 36 PG1, 37 PE3/TIM1_BKIN, 38 PE2_(T)/I2C_SDA, 39 PE1_(T)/I2C_SCL, 40 PE0_(HS)/CLK_CCO, 41 PD0_(HS)/TIM3_CH2_[TIM1_BKIN]_[CLK_CCO], 42 PD1_(HS)/SWIM, 43 PD2_(HS)/TIM3_CH1_[TIM2_CH3], 44 PD3_(HS)/TIM2_CH2_[ADC_ETR], 45 PD4_(HS)/TIM2_CH1_[BEEP], 46 PD5/UART2_TX, 47 PD6/UART2_RX, 48 PD7/_TLI[TIM1_CH4]

## STM8S105C6T6
designator IC?
Integrated Circuit; Manufacturer_Name: STMicroelectronics; Manufacturer_Part_Number: STM8S105C6T6; Datasheet Link: http://www.st.com/st-web-ui/static/active/en/resource/technical/document/datasheet/CD00200092.pdf; Height: 1.6mm; Mouser Part Number: 511-STM8S105C6T6; Mouser Price/Stock: https://www.mouser.co.uk/ProductDetail/STMicroelectronics/STM8S105C6T6?qs=YSp3DhtTcU0dfkIK6kZojw%3D%3D; Arrow Part Number: STM8S105C6T6; Arrow Price/Stock: https://www.arrow.com/en/products/stm8s105c6t6/stmicroelectronics
footprint QFP50P900X900X160-48N
pins: 1 NRST, 2 OSCIN/PA1, 3 OSCOUT/PA2, 4 VSSIO_1, 5 VSS, 6 VCAP, 7 VDD, 8 VDDIO_1, 9 [TIM3_CH1]_TIM2_CH3/PA3, 10 (HS)_PA4, 11 (HS)_PA5, 12 (HS)_PA6, 13 VDDA, 14 VSSA, 15 AIN7/PB7, 16 AIN6/PB6, 17 [I2C__SDA]AIN5/PB5, 18 [I2C_SCL]AIN4/PB4, 19 [TIM1_ETR]AIN3/PB3, 20 [TIM1_CH3N]AIN2/PB2, 21 [TIM1_CH2N]AIN1/PB1, 22 [TIM1_CH1N]AIN0/PB0, 23 AIN8/PE7, 24 AIN9/PE6, 25 PE5/_SPI_NSS, 26 PC1_(HS)/_TIM1_CH1/_UART2_CK, 27 PC2_(HS)/_TIM1_CH2, 28 PC3_(HS)/_TIM1_CH3, 29 PC4_(HS)/_TIM1_CH4, 30 PC5_(HS)/_SPI_SCK, 31 VSSIO_2, 32 VDDIO_2, 33 PC6_(HS)/_SPI_MOSI, 34 PC7_(HS)/_SPI__MISO, 35 PG0, 36 PG1, 37 PE3/_TIM1_BKIN, 38 PE2_(T)/_I_2C__SDA, 39 PE1__(T)/_I2C__SCL, 40 PE0_(HS)/_CLK_CCO, 41 PD0_(HS)/_TIM3_CH2, 42 PD1_(HS)/_SWIM, 43 PD2_(HS)/_TIM3_CH1_[TIM2_CH3], 44 PD3_(HS)/_TIM2_CH2_[ADC_ETR], 45 PD4_(HS)/_TIM2_CH1_[BEEP], 46 PD5/_UART2_TX, 47 PD6/_UART2_RX, 48 PD7/_TLI_[TIM1_CH4]

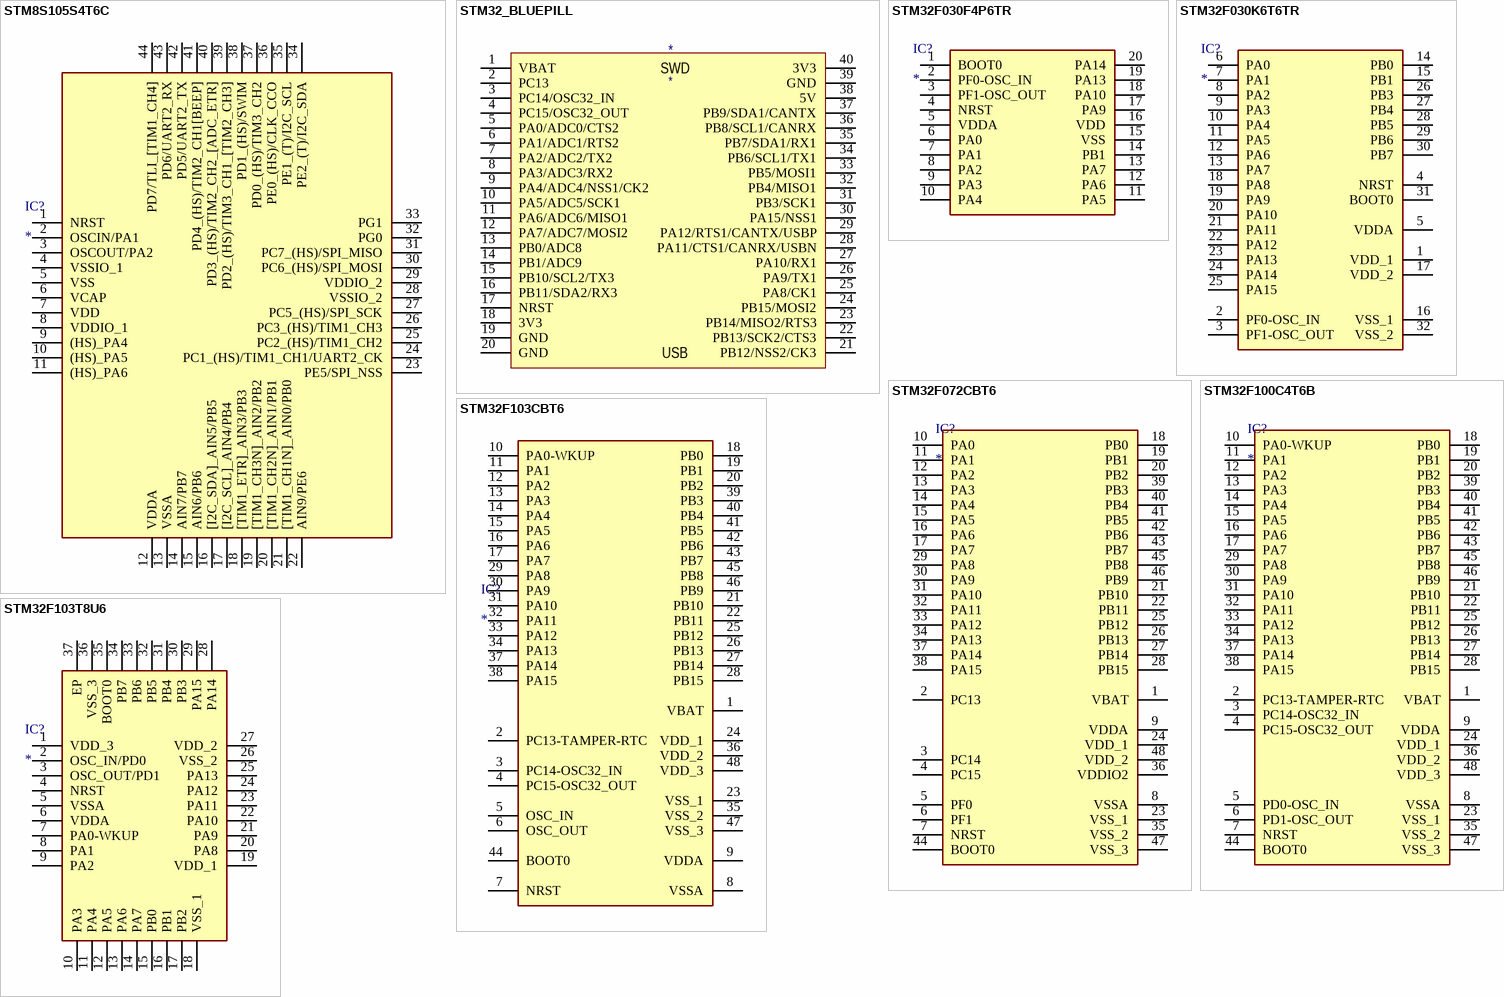
[diagram p39: symbols STM8S105S4T6C to STM32F103T8U6]

## STM8S105S4T6C
designator IC?
Integrated Circuit; Manufacturer_Name: STMicroelectronics; Manufacturer_Part_Number: STM8S105S4T6C; Datasheet Link: http://www.st.com/st-web-ui/static/active/en/resource/technical/document/datasheet/CD00200092.pdf; Height: 1.6mm; Mouser Part Number: 511-STM8S105S4T6C; Mouser Price/Stock: https://www.mouser.co.uk/ProductDetail/STMicroelectronics/STM8S105S4T6C?qs=YSp3DhtTcU2lUfT6hUqWAg%3D%3D; Arrow Part Number: STM8S105S4T6C; Arrow Price/Stock: https://www.arrow.com/en/products/stm8s105s4t6c/stmicroelectronics
footprint QFP80P1200X1200X160-44N
pins: 1 NRST, 2 OSCIN/PA1, 3 OSCOUT/PA2, 4 VSSIO_1, 5 VSS, 6 VCAP, 7 VDD, 8 VDDIO_1, 9 (HS)_PA4, 10 (HS)_PA5, 11 (HS)_PA6, 12 VDDA, 13 VSSA, 14 AIN7/PB7, 15 AIN6/PB6, 16 [I2C_SDA]_AIN5/PB5, 17 [I2C_SCL]_AIN4/PB4, 18 [TIM1_ETR]_AIN3/PB3, 19 [TIM1_CH3N]_AIN2/PB2, 20 [TIM1_CH2N]_AIN1/PB1, 21 [TIM1_CH1N]_AIN0/PB0, 22 AIN9/PE6, 23 PE5/SPI_NSS, 24 PC1_(HS)/TIM1_CH1/UART2_CK, 25 PC2_(HS)/TIM1_CH2, 26 PC3_(HS)/TIM1_CH3, 27 PC5_(HS)/SPI_SCK, 28 VSSIO_2, 29 VDDIO_2, 30 PC6_(HS)/SPI_MOSI, 31 PC7_(HS)/SPI_MISO, 32 PG0, 33 PG1, 34 PE2_(T)/I2C_SDA, 35 PE1_(T)/I2C_SCL, 36 PE0_(HS)/CLK_CCO, 37 PD0_(HS)/TIM3_CH2, 38 PD1_(HS)/SWIM, 39 PD2_(HS)/TIM3_CH1_[TIM2_CH3], 40 PD3_(HS)/TIM2_CH2_[ADC_ETR], 41 PD4_(HS)/TIM2_CH1[BEEP], 42 PD5/UART2_TX, 43 PD6/UART2_RX, 44 PD7/TLI_[TIM1_CH4]

## STM32_BLUEPILL
designator *
footprint STM32_BLUEPILL
pins: 1 VBAT, 2 PC13, 3 PC14/OSC32_IN, 4 PC15/OSC32_OUT, 5 PA0/ADC0/CTS2, 6 PA1/ADC1/RTS2, 7 PA2/ADC2/TX2, 8 PA3/ADC3/RX2, 9 PA4/ADC4/NSS1/CK2, 10 PA5/ADC5/SCK1, 11 PA6/ADC6/MISO1, 12 PA7/ADC7/MOSI2, 13 PB0/ADC8, 14 PB1/ADC9, 15 PB10/SCL2/TX3, 16 PB11/SDA2/RX3, 17 NRST, 18 3V3, 19 GND, 20 GND, 21 PB12/NSS2/CK3, 22 PB13/SCK2/CTS3, 23 PB14/MISO2/RTS3, 24 PB15/MOSI2, 25 PA8/CK1, 26 PA9/TX1, 27 PA10/RX1, 28 PA11/CTS1/CANRX/USBN, 29 PA12/RTS1/CANTX/USBP, 30 PA15/NSS1, 31 PB3/SCK1, 32 PB4/MISO1, 33 PB5/MOSI1, 34 PB6/SCL1/TX1, 35 PB7/SDA1/RX1, 36 PB8/SCL1/CANRX, 37 PB9/SDA1/CANTX, 38 5V, 39 GND, 40 3V3
text: SWD; USB

## STM32F030F4P6TR
designator IC?
Integrated Circuit; Manufacturer_Name: STMicroelectronics; Manufacturer_Part_Number: STM32F030F4P6TR; Datasheet Link: https://www.st.com/resource/en/datasheet/stm32f030rc.pdf; Height: 1.2mm; Mouser Part Number: 511-STM32F030F4P6TR; Mouser Price/Stock: https://www.mouser.co.uk/ProductDetail/STMicroelectronics/STM32F030F4P6TR?qs=MavH1QghrkE4yfyLOfvVsw%3D%3D; Arrow Part Number: STM32F030F4P6TR; Arrow Price/Stock: https://www.arrow.com/en/products/stm32f030f4p6tr/stmicroelectronics?utm_currency=USD&region=nac
footprint SOP65P640X120-20N
pins: 1 BOOT0, 2 PF0-OSC_IN, 3 PF1-OSC_OUT, 4 NRST, 5 VDDA, 6 PA0, 7 PA1, 8 PA2, 9 PA3, 10 PA4, 11 PA5, 12 PA6, 13 PA7, 14 PB1, 15 VSS, 16 VDD, 17 PA9, 18 PA10, 19 PA13, 20 PA14

## STM32F030K6T6TR
designator IC?
Integrated Circuit; Manufacturer_Name: STMicroelectronics; Manufacturer_Part_Number: STM32F030K6T6TR; Datasheet Link: http://www.st.com/content/ccc/resource/technical/document/datasheet/a4/5d/0b/0e/87/c4/4d/71/DM00088500.pdf/files/DM00088500.pdf/jcr:content/translations/en.DM00088500.pdf; Height: 1.6mm; Mouser Part Number: 511-STM32F030K6T6TR; Mouser Price/Stock: https://www.mouser.co.uk/ProductDetail/STMicroelectronics/STM32F030K6T6TR?qs=9MuLHSklicort60U4QZudQ%3D%3D; Arrow Part Number: STM32F030K6T6TR; Arrow Price/Stock: https://www.arrow.com/en/products/stm32f030k6t6tr/stmicroelectronics
footprint QFP80P900X900X160-32N
pins: 1 VDD_1, 2 PF0-OSC_IN, 3 PF1-OSC_OUT, 4 NRST, 5 VDDA, 6 PA0, 7 PA1, 8 PA2, 9 PA3, 10 PA4, 11 PA5, 12 PA6, 13 PA7, 14 PB0, 15 PB1, 16 VSS_1, 17 VDD_2, 18 PA8, 19 PA9, 20 PA10, 21 PA11, 22 PA12, 23 PA13, 24 PA14, 25 PA15, 26 PB3, 27 PB4, 28 PB5, 29 PB6, 30 PB7, 31 BOOT0, 32 VSS_2

## STM32F072CBT6
designator IC?
Integrated Circuit; Manufacturer_Name: STMicroelectronics; Manufacturer_Part_Number: STM32F072CBT6; Datasheet Link: http://www.farnell.com/datasheets/2006534.pdf; Height: 1.6mm; Mouser Part Number: 511-STM32F072CBT6; Mouser Price/Stock: https://www.mouser.co.uk/ProductDetail/STMicroelectronics/STM32F072CBT6?qs=xf9JV0PLFEfBqXx8wKtR8A%3D%3D; Arrow Part Number: STM32F072CBT6; Arrow Price/Stock: https://www.arrow.com/en/products/stm32f072cbt6/stmicroelectronics?region=europe
footprint QFP50P900X900X160-48N
pins: 1 VBAT, 2 PC13, 3 PC14, 4 PC15, 5 PF0, 6 PF1, 7 NRST, 8 VSSA, 9 VDDA, 10 PA0, 11 PA1, 12 PA2, 13 PA3, 14 PA4, 15 PA5, 16 PA6, 17 PA7, 18 PB0, 19 PB1, 20 PB2, 21 PB10, 22 PB11, 23 VSS_1, 24 VDD_1, 25 PB12, 26 PB13, 27 PB14, 28 PB15, 29 PA8, 30 PA9, 31 PA10, 32 PA11, 33 PA12, 34 PA13, 35 VSS_2, 36 VDDIO2, 37 PA14, 38 PA15, 39 PB3, 40 PB4, 41 PB5, 42 PB6, 43 PB7, 44 BOOT0, 45 PB8, 46 PB9, 47 VSS_3, 48 VDD_2

## STM32F100C4T6B
designator IC?
Integrated Circuit; Manufacturer_Name: STMicroelectronics; Manufacturer_Part_Number: STM32F100C4T6B; Datasheet Link: http://www.st.com/st-web-ui/static/active/en/resource/technical/document/datasheet/CD00251732.pdf; Height: 1.6mm; Mouser Part Number: 511-STM32F100C4T6B; Mouser Price/Stock: https://www.mouser.co.uk/ProductDetail/STMicroelectronics/STM32F100C4T6B?qs=eF7XX6ARXFFtbu%2FwaPrRxg%3D%3D; Arrow Part Number: STM32F100C4T6B; Arrow Price/Stock: https://www.arrow.com/en/products/stm32f100c4t6b/stmicroelectronics?region=europe
footprint QFP50P900X900X160-48N
pins: 1 VBAT, 2 PC13-TAMPER-RTC, 3 PC14-OSC32_IN, 4 PC15-OSC32_OUT, 5 PD0-OSC_IN, 6 PD1-OSC_OUT, 7 NRST, 8 VSSA, 9 VDDA, 10 PA0-WKUP, 11 PA1, 12 PA2, 13 PA3, 14 PA4, 15 PA5, 16 PA6, 17 PA7, 18 PB0, 19 PB1, 20 PB2, 21 PB10, 22 PB11, 23 VSS_1, 24 VDD_1, 25 PB12, 26 PB13, 27 PB14, 28 PB15, 29 PA8, 30 PA9, 31 PA10, 32 PA11, 33 PA12, 34 PA13, 35 VSS_2, 36 VDD_2, 37 PA14, 38 PA15, 39 PB3, 40 PB4, 41 PB5, 42 PB6, 43 PB7, 44 BOOT0, 45 PB8, 46 PB9, 47 VSS_3, 48 VDD_3

## STM32F103CBT6
designator IC?
Integrated Circuit; Manufacturer_Name: STMicroelectronics; Manufacturer_Part_Number: STM32F103CBT6; Datasheet Link: http://www.st.com/st-web-ui/static/active/en/resource/technical/document/datasheet/CD00161566.pdf; Height: 1.6mm; Mouser Part Number: 511-STM32F103CBT6; Mouser Price/Stock: https://www.mouser.co.uk/ProductDetail/STMicroelectronics/STM32F103CBT6?qs=WxFF5lh7QM3goh6GV5Ogig%3D%3D; Arrow Part Number: STM32F103CBT6; Arrow Price/Stock: https://www.arrow.com/en/products/stm32f103cbt6/stmicroelectronics?region=nac
footprint QFP50P900X900X160-48N
pins: 1 VBAT, 2 PC13-TAMPER-RTC, 3 PC14-OSC32_IN, 4 PC15-OSC32_OUT, 5 OSC_IN, 6 OSC_OUT, 7 NRST, 8 VSSA, 9 VDDA, 10 PA0-WKUP, 11 PA1, 12 PA2, 13 PA3, 14 PA4, 15 PA5, 16 PA6, 17 PA7, 18 PB0, 19 PB1, 20 PB2, 21 PB10, 22 PB11, 23 VSS_1, 24 VDD_1, 25 PB12, 26 PB13, 27 PB14, 28 PB15, 29 PA8, 30 PA9, 31 PA10, 32 PA11, 33 PA12, 34 PA13, 35 VSS_2, 36 VDD_2, 37 PA14, 38 PA15, 39 PB3, 40 PB4, 41 PB5, 42 PB6, 43 PB7, 44 BOOT0, 45 PB8, 46 PB9, 47 VSS_3, 48 VDD_3

## STM32F103T8U6
designator IC?
Integrated Circuit; Manufacturer_Name: STMicroelectronics; Manufacturer_Part_Number: STM32F103T8U6; Datasheet Link: http://www.st.com/st-web-ui/static/active/en/resource/technical/document/datasheet/CD00161566.pdf; Height: 1mm; Mouser Part Number: 511-STM32F103T8U6; Mouser Price/Stock: https://www.mouser.co.uk/ProductDetail/STMicroelectronics/STM32F103T8U6?qs=TaOZSEYtRiWNjawIhjImDQ%3D%3D; Arrow Part Number: STM32F103T8U6; Arrow Price/Stock: https://www.arrow.com/en/products/stm32f103t8u6/stmicroelectronics?utm_currency=USD&region=nac
footprint QFN50P600X600X100-37N-D
pins: 1 VDD_3, 2 OSC_IN/PD0, 3 OSC_OUT/PD1, 4 NRST, 5 VSSA, 6 VDDA, 7 PA0-WKUP, 8 PA1, 9 PA2, 10 PA3, 11 PA4, 12 PA5, 13 PA6, 14 PA7, 15 PB0, 16 PB1, 17 PB2, 18 VSS_1, 19 VDD_1, 20 PA8, 21 PA9, 22 PA10, 23 PA11, 24 PA12, 25 PA13, 26 VSS_2, 27 VDD_2, 28 PA14, 29 PA15, 30 PB3, 31 PB4, 32 PB5, 33 PB6, 34 PB7, 35 BOOT0, 36 VSS_3, 37 EP

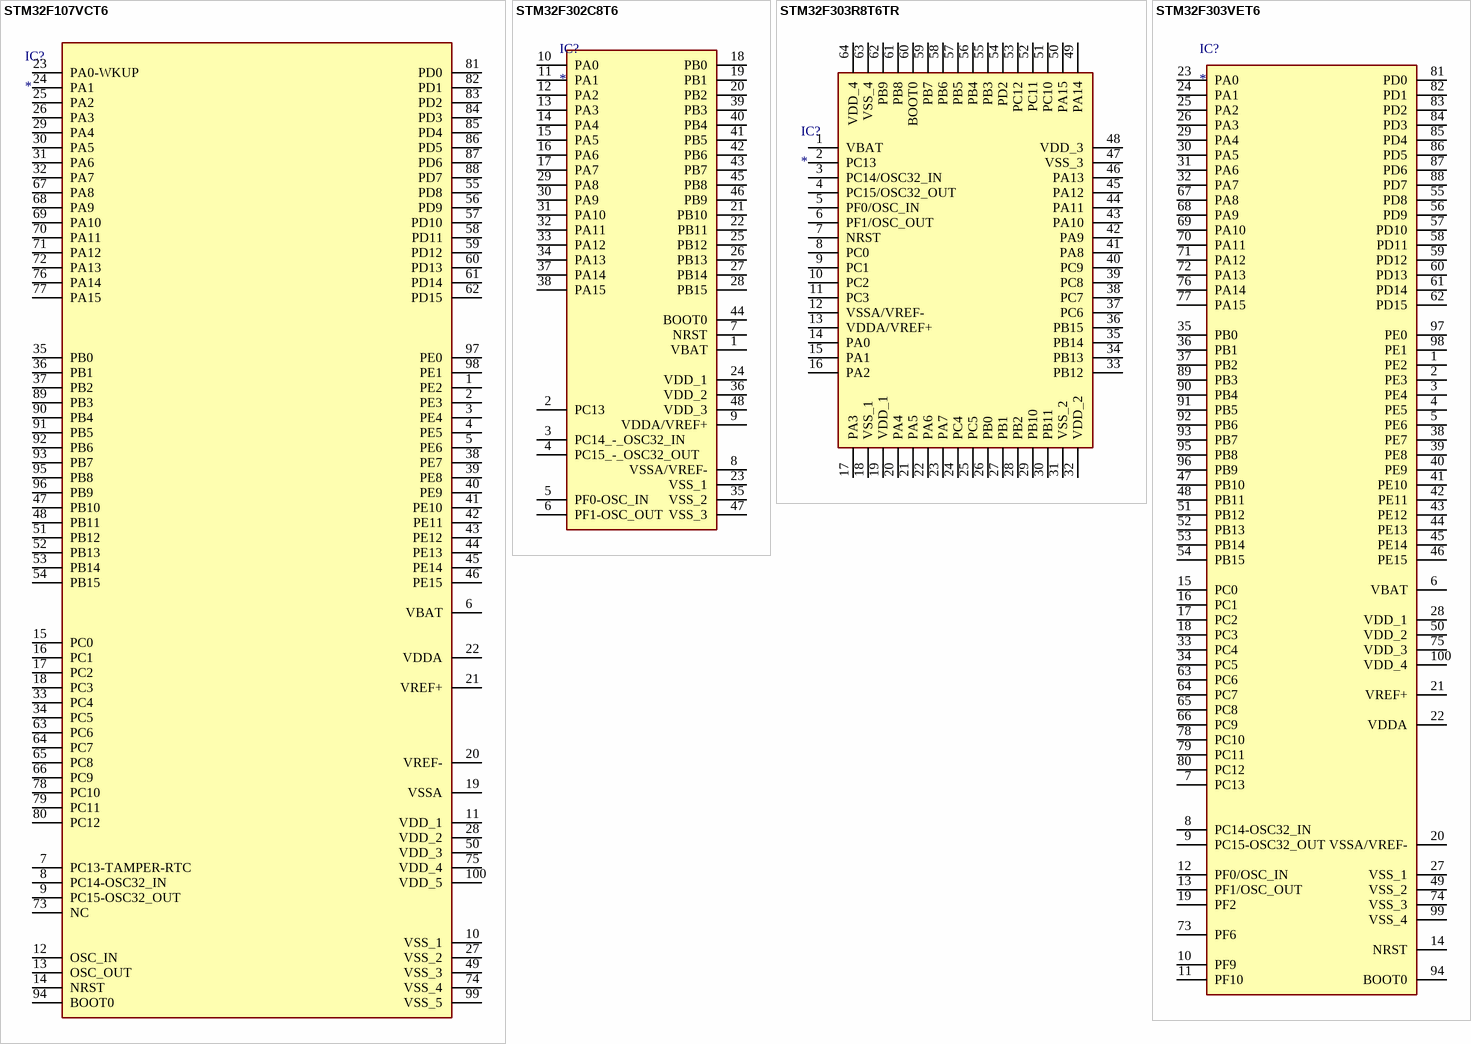
[diagram p40: symbols STM32F107VCT6 to STM32F303VET6]

## STM32F107VCT6
designator IC?
Integrated Circuit; Manufacturer_Name: STMicroelectronics; Manufacturer_Part_Number: STM32F107VCT6; Datasheet Link: https://www.st.com/resource/en/datasheet/stm32f105r8.pdf; Height: 1.6mm; Mouser Part Number: 511-STM32F107VCT6; Mouser Price/Stock: https://www.mouser.co.uk/ProductDetail/STMicroelectronics/STM32F107VCT6?qs=1XJIe8X6XT1KmS9%252Be0Uqlg%3D%3D; Arrow Part Number: STM32F107VCT6; Arrow Price/Stock: https://www.arrow.com/en/products/stm32f107vct6/stmicroelectronics?region=nac
footprint QFP50P1600X1600X160-100N
pins: 1 PE2, 2 PE3, 3 PE4, 4 PE5, 5 PE6, 6 VBAT (power), 7 PC13-TAMPER-RTC, 8 PC14-OSC32_IN, 9 PC15-OSC32_OUT, 10 VSS_1 (power), 11 VDD_1 (power), 12 OSC_IN, 13 OSC_OUT, 14 NRST, 15 PC0, 16 PC1, 17 PC2, 18 PC3, 19 VSSA (power), 20 VREF- (power), 21 VREF+ (power), 22 VDDA (power), 23 PA0-WKUP, 24 PA1, 25 PA2, 26 PA3, 27 VSS_2 (power), 28 VDD_2 (power), 29 PA4, 30 PA5, 31 PA6, 32 PA7, 33 PC4, 34 PC5, 35 PB0, 36 PB1, 37 PB2, 38 PE7, 39 PE8, 40 PE9, 41 PE10, 42 PE11, 43 PE12, 44 PE13, 45 PE14, 46 PE15, 47 PB10, 48 PB11, 49 VSS_3 (power), 50 VDD_3 (power), 51 PB12, 52 PB13, 53 PB14, 54 PB15, 55 PD8, 56 PD9, 57 PD10, 58 PD11, 59 PD12, 60 PD13, 61 PD14, 62 PD15, 63 PC6, 64 PC7, 65 PC8, 66 PC9, 67 PA8, 68 PA9, 69 PA10, 70 PA11, 71 PA12, 72 PA13, 73 NC, 74 VSS_4 (power), 75 VDD_4 (power), 76 PA14, 77 PA15, 78 PC10, 79 PC11, 80 PC12, 81 PD0, 82 PD1, 83 PD2, 84 PD3, 85 PD4, 86 PD5, 87 PD6, 88 PD7, 89 PB3, 90 PB4, 91 PB5, 92 PB6, 93 PB7, 94 BOOT0, 95 PB8, 96 PB9, 97 PE0, 98 PE1, 99 VSS_5 (power), 100 VDD_5 (power)